# Altium schematic symbol library MySchLib.SchLib: 286 symbols (part 2 of 5)
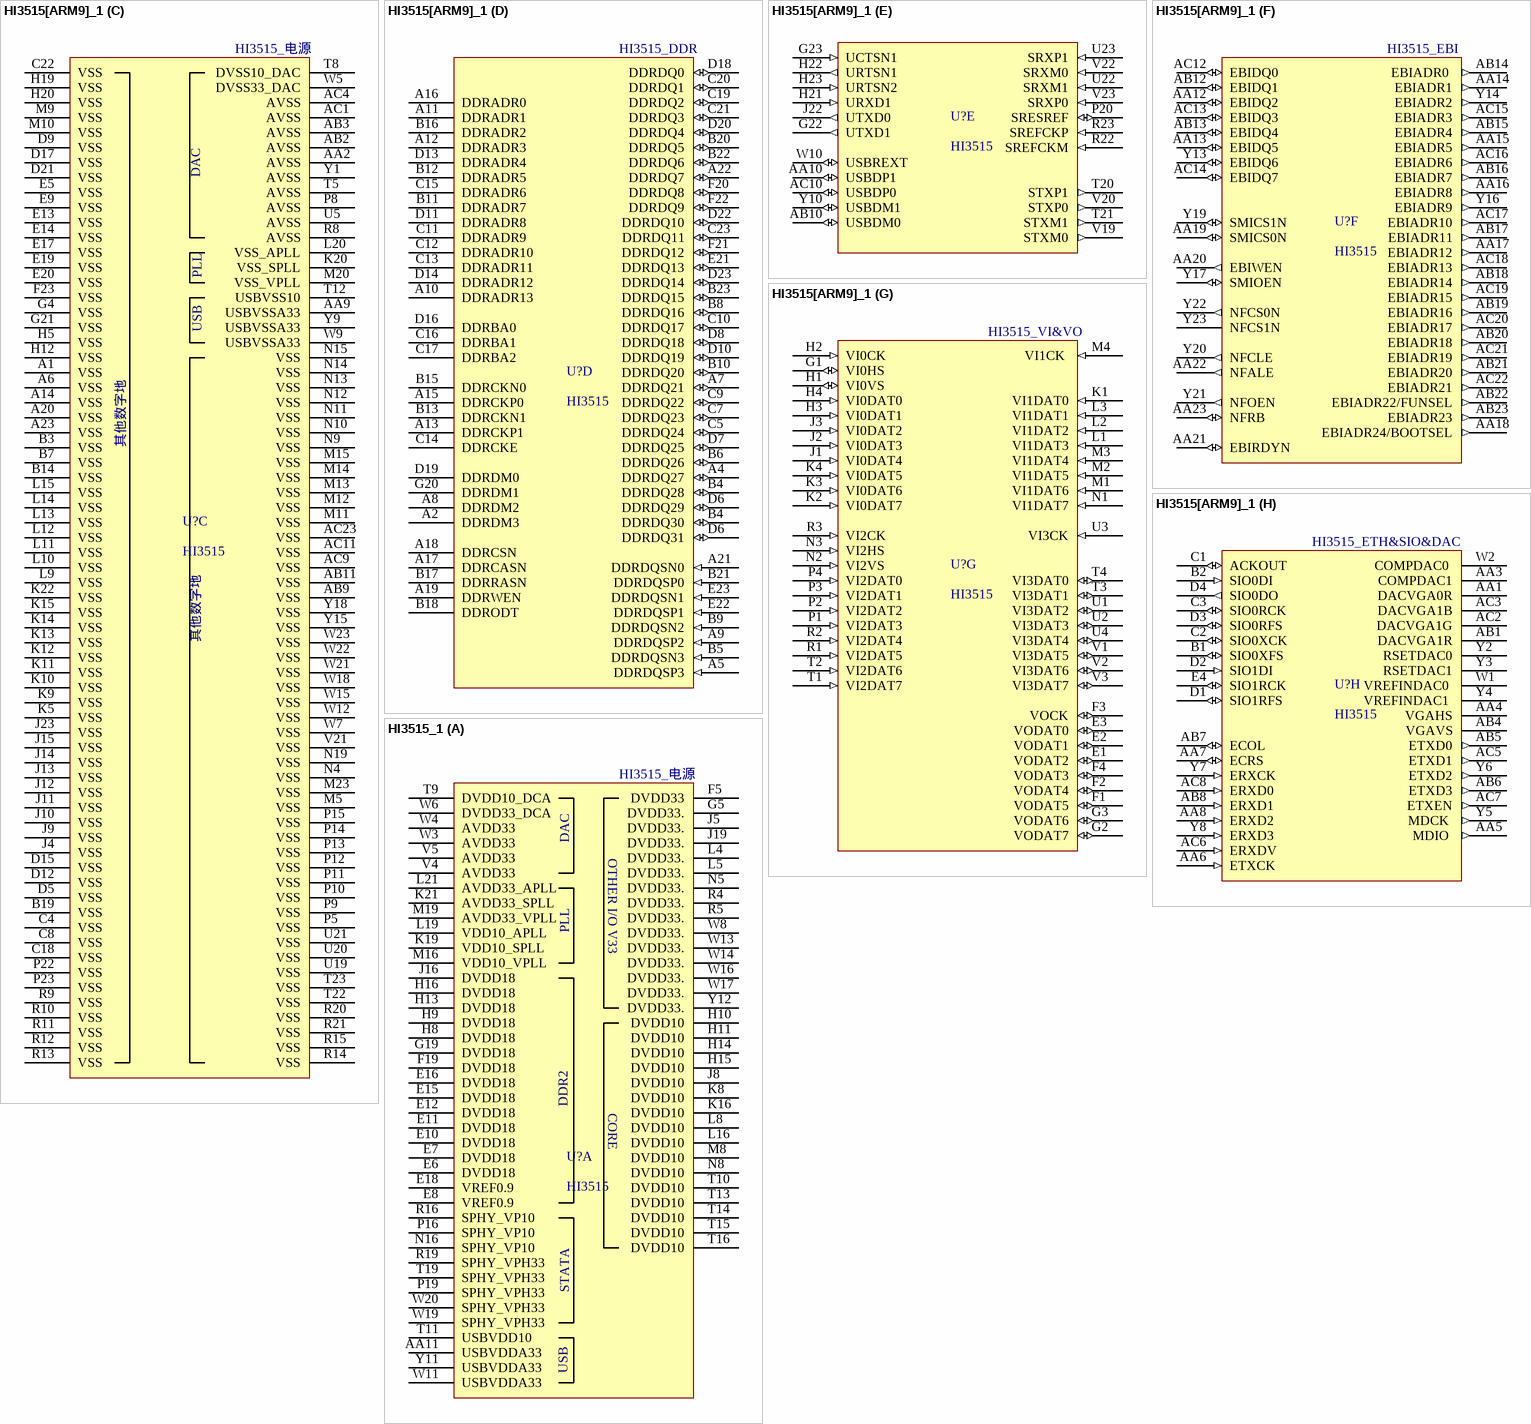
[diagram p30: symbols HI3515[ARM9]_1 to HI3515_1]

## HI3515[ARM9]_1
designator U?, comment HI3515
footprint TFBGA441
part A pins: AA18 EBIADR24/BOOTSEL (out) "EBI 地址总线", AB22 EBIADR22/FUNSEL (out) "EBI 地址总线", J20 SDA (io) "I  2  C 总线数据/ 地址，OD输出。  PCB 上需要外界上拉电阻", J21 SCL (io) "I  2  C 总线时钟，OD输出。PCB  上需要外界上拉电阻", K23 XOUT24, L22 TESTMODE (in) "功能模式和ARM debug 模式选  择。   0 ：正常工作模式，ARM可进  入debug 模式；   1 ：测试模式", L23 XIN24, M21 RSTN  (in) "系统上电复位信号输入，低电  平有效", M22 WDGRSTN (out) "看门狗复位输出，低电平有  效，OD输出", N20 TCK (in) "JTAG 时钟输入", N21 TMS (in) "JTAG 模式选择输入", N22 TDO  (out) "JTAG 数据输出", N23 TDI  (in) "JTAG 数据输入", P21 TRSTN (in) "JTAG 复位输入，低电平有效"
part B pins: AA11 USBVDDA33 (power) "USB 2.0 HOST模拟电源，外接  3.3V", E6 DVDD18 (power), E7 DVDD18 (power), E8 VREF0.9 (power), E10 DVDD18 (power), E11 DVDD18 (power), E12 DVDD18 (power), E15 DVDD18 (power), E16 DVDD18 (power), E18 VREF0.9 (power), F5 DVDD33 (power), F19 DVDD18 (power), G5 DVDD33 (power), G19 DVDD18 (power), H8 DVDD18 (power), H9 DVDD18 (power), H10 DVDD10 (power), H11 DVDD10 (power), H13 DVDD18 (power), H14 DVDD10 (power), H15 DVDD10 (power), H16 DVDD18 (power), J5 DVDD33 (power), J8 DVDD10 (power), J16 DVDD18 (power), J19 DVDD33 (power), K8 DVDD10 (power), K16 DVDD10 (power), K19 VDD10_SPLL (power), K21 AVDD33_SPLL (power), L4 DVDD33 (power), L5 DVDD33 (power), L8 DVDD10 (power), L16 DVDD10 (power), L19 VDD10_APLL (power), L21 AVDD33_APLL (power), M8 DVDD10 (power), M16 VDD10_VPLL (power), M19 AVDD33_VPLL (power), N5 DVDD33 (power), N8 DVDD10 (power), N16 SPHY_VP10 (power), P16 SPHY_VP10 (power), P19 SPHY_VPH33 (power) "3.3V", R4 DVDD33 (power), R5 DVDD33 (power), R16 SPHY_VP10 (power), R19 SPHY_VPH33 (power) "3.3V", T9 DVDD10_DCA (power), T10 DVDD10 (power), T11 USBVDD10 (power) "USB 2.0 HOST数字电源，外接  1.0V", T13 DVDD10 (power), T14 DVDD10 (power), T15 DVDD10 (power), T16 DVDD10 (power), T19 SPHY_VPH33 (power) "3.3V", V4 AVDD33 (power), V5 AVDD33 (power), W3 AVDD33 (power), W4 AVDD33 (power), W6 DVDD33_DCA (power), W8 DVDD33 (power), W11 USBVDDA33 (power) "USB 2.0 HOST模拟电源，外接  3.3V", W13 DVDD33 (power), W14 DVDD33 (power), W16 DVDD33 (power), W17 DVDD33 (power), W19 SPHY_VPH33 (power) "3.3V", W20 SPHY_VPH33 (power) "3.3V", Y11 USBVDDA33 (power) "USB 2.0 HOST模拟电源，外接  3.3V", Y12 DVDD33 (power)
part C pins: A1 VSS (power) "数字地", A6 VSS (power) "数字地", A14 VSS (power) "数字地", A20 VSS (power) "数字地", A23 VSS (power) "数字地", AA2 AVSS (power), AA9 USBVSSA33 (power), AB2 AVSS (power), AB3 AVSS (power), AB9 VSS (power) "数字地", AB11 VSS (power) "数字地", AC1 AVSS (power), AC4 AVSS (power), AC9 VSS (power) "数字地", AC11 VSS (power) "数字地", AC23 VSS (power) "数字地", B3 VSS (power) "数字地", B7 VSS (power) "数字地", B14 VSS (power) "数字地", B19 VSS (power) "数字地", C4 VSS (power) "数字地", C8 VSS (power) "数字地", C18 VSS (power) "数字地", C22 VSS (power) "数字地", D5 VSS (power) "数字地", D9 VSS (power) "数字地", D12 VSS (power) "数字地", D15 VSS (power) "数字地", D17 VSS (power) "数字地", D21 VSS (power) "数字地", E5 VSS (power) "数字地", E9 VSS (power) "数字地", E13 VSS (power) "数字地", E14 VSS (power) "数字地", E17 VSS (power) "数字地", E19 VSS (power) "数字地", E20 VSS (power) "数字地", F23 VSS (power) "数字地", G4 VSS (power) "数字地", G21 VSS (power) "数字地", H5 VSS (power) "数字地", H12 VSS (power) "数字地", H19 VSS (power) "数字地", H20 VSS (power) "数字地", J4 VSS (power) "数字地", J9 VSS (power) "数字地", J10 VSS (power) "数字地", J11 VSS (power) "数字地", J12 VSS (power) "数字地", J13 VSS (power) "数字地", J14 VSS (power) "数字地", J15 VSS (power) "数字地", J23 VSS (power) "数字地", K5 VSS (power) "数字地", K9 VSS (power) "数字地", K10 VSS (power) "数字地", K11 VSS (power) "数字地", K12 VSS (power) "数字地", K13 VSS (power) "数字地", K14 VSS (power) "数字地", K15 VSS (power) "数字地", K20 VSS_SPLL (power), K22 VSS (power) "数字地", L9 VSS (power) "数字地", L10 VSS (power) "数字地", L11 VSS (power) "数字地", L12 VSS (power) "数字地", L13 VSS (power) "数字地", L14 VSS (power) "数字地", L15 VSS (power) "数字地", L20 VSS_APLL (power), M5 VSS (power) "数字地", M9 VSS (power) "数字地", M10 VSS (power) "数字地", M11 VSS (power) "数字地", M12 VSS (power) "数字地", M13 VSS (power) "数字地", M14 VSS (power) "数字地", M15 VSS (power) "数字地", M20 VSS_VPLL (power), M23 VSS (power) "数字地", N4 VSS (power) "数字地", N9 VSS (power) "数字地", N10 VSS (power) "数字地", N11 VSS (power) "数字地", N12 VSS (power) "数字地", N13 VSS (power) "数字地", N14 VSS (power) "数字地", N15 VSS (power) "数字地", N19 VSS (power) "数字地", P5 VSS (power) "数字地", P8 AVSS (power), P9 VSS (power) "数字地", P10 VSS (power) "数字地", P11 VSS (power) "数字地", P12 VSS (power) "数字地", P13 VSS (power) "数字地", P14 VSS (power) "数字地", P15 VSS (power) "数字地", P22 VSS (power) "数字地", P23 VSS (power) "数字地", R8 AVSS (power), R9 VSS (power) "数字地", R10 VSS (power) "数字地", R11 VSS (power) "数字地", R12 VSS (power) "数字地", R13 VSS (power) "数字地", R14 VSS (power) "数字地", R15 VSS (power) "数字地", R20 VSS (power) "数字地", R21 VSS (power) "数字地", T5 AVSS (power), T8 DVSS10_DAC (power), T12 USBVSS10 (power), T22 VSS (power) "数字地", T23 VSS (power) "数字地", U5 AVSS (power), U19 VSS (power) "数字地", U20 VSS (power) "数字地", U21 VSS (power) "数字地", V21 VSS (power) "数字地", W5 DVSS33_DAC (power), W7 VSS (power) "数字地", W9 USBVSSA33 (power), W12 VSS (power) "数字地", W15 VSS (power) "数字地", W18 VSS (power) "数字地", W21 VSS (power) "数字地", W22 VSS (power) "数字地", W23 VSS (power) "数字地", Y1 AVSS (power), Y9 USBVSSA33 (power), Y15 VSS (power) "数字地", Y18 VSS (power) "数字地"
part D pins: A2 DDRDM3 "DDR端口的字节屏蔽信号，对  应数据总线DDRDQ[31:24]", A4 DDRDQ27 (io) "DDR端口的数据信号", A5 DDRDQSP3 (in) "DDR端口的数据选通正向差分  信号，对应数据总线  DDRDQ[31:24]", A7 DDRDQ21 (io) "DDR端口的数据信号", A8 DDRDM2 "DDR端口的字节屏蔽信号，对  应数据总线DDRDQ[23:16]", A9 DDRDQSP2 (in) "DDR端口的数据选通正向差分  信号，对应数据总线  DDRDQ[23:16]", A10 DDRADR13 "DDR端口的地址信号", A11 DDRADR1 "DDR端口的地址信号", A12 DDRADR3 "DDR端口的地址信号", A13 DDRCKP1 "DDR端口的01 组正向差分时  钟", A15 DDRCKP0 "DDR端口的0 组正向差分时  钟", A16 DDRADR0 "DDR端口的地址信号", A17 DDRCASN "DDR端口的列地址选通信号，  低电平有效", A18 DDRCSN "DDR端口输出到DDR2   SDRAM 的片选信号，低电平有  效。", A19 DDRWEN "DDR端口的写使能信号，低电  平有效", A21 DDRDQSN0 (in) "DDR端口的数据选通负向差分  信号，对应数据总线  DDRDQ[7:0]", A22 DDRDQ7 (io) "DDR端口的数据信号", B4 DDRDQ28 (io) "DDR端口的数据信号", B4 DDRDQ30 (io), B5 DDRDQSN3 (in) "DDR端口的数据选通负向差分  信号，对应数据总线  DDRDQ[31:24]。", B6 DDRDQ26 (io) "DDR端口的数据信号", B8 DDRDQ16 (io) "DDR端口的数据信号", B9 DDRDQSN2 (in) "DDR端口的数据选通负向差分  信号，对应数据总线  DDRDQ[23:16]", B10 DDRDQ20 (io) "DDR端口的数据信号", B11 DDRADR7 "DDR端口的地址信号", B12 DDRADR5 "DDR端口的地址信号", B13 DDRCKN1 "DDR端口的1 组负向差分时  钟", B15 DDRCKN0 "DDR端口的0 组负向差分时  钟", B16 DDRADR2 "DDR端口的地址信号", B17 DDRRASN "DDR端口的数据选DDR端口的行地址选通信号，  低电平有效", B18 DDRODT "DDR端口的数据选通正向差分  信号，对应数据总线  DDRDQ[31:24]", B20 DDRDQ5 (io) "DDR端口的数据信号", B21 DDRDQSP0 (in) "DDR端口的数据选通正向差分  信号，对应数据总线  DDRDQ[7:0]", B22 DDRDQ6 (io) "DDR端口的数据信号", B23 DDRDQ15 (io) "DDR端口的数据信号", C5 DDRDQ24 (io) "DDR端口的数据信号", C7 DDRDQ23 (io) "DDR端口的数据信号", C9 DDRDQ22 (io) "DDR端口的数据信号", C10 DDRDQ17 (io) "DDR端口的数据信号", C11 DDRADR9 "DDR端口的地址信号", C12 DDRADR10 "DDR端口的地址信号", C13 DDRADR11 "DDR端口的地址信号", C14 DDRCKE "DDR端口的时钟使能信号，高  电平有效", C15 DDRADR6 "DDR端口的地址信号", C16 DDRBA1 "DDR端口的bank 1 选择信号", C17 DDRBA2 "DDR端口的bank 2 选择信号", C19 DDRDQ2 (io) "DDR端口的数据信号", C20 DDRDQ1 (io) "DDR端口的数据信号", C21 DDRDQ3 (io) "DDR端口的数据信号", C23 DDRDQ11 (io) "DDR端口的数据信号", D6 DDRDQ29 (io) "DDR端口的数据信号", D6 DDRDQ31 (io), D7 DDRDQ25 (io) "DDR端口的数据信号", D8 DDRDQ18 (io) "DDR端口的数据信号", D10 DDRDQ19 (io) "DDR端口的数据信号", D11 DDRADR8 "DDR端口的地址信号", D13 DDRADR4 "DDR端口的地址信号", D14 DDRADR12 "DDR端口的地址信号", D16 DDRBA0 "DDR端口的bank 0 选择信号", D18 DDRDQ0 (io) "DDR端口的数据信号", D19 DDRDM0 "DDR端口输出到DDR2DDR端口的字节屏蔽信号，对  应数据总线DDRDQ[7:0]", D20 DDRDQ4 (io) "DDR端口的数据信号", D22 DDRDQ10 (io) "DDR端口的数据信号", D23 DDRDQ14 (io) "DDR端口的数据信号", E21 DDRDQ13 (io) "DDR端口的数据信号", E22 DDRDQSP1 (in) "DDR端口的数据选通正向差分  信号，对应数据总线  DDRDQ[15:8]", E23 DDRDQSN1 (in) "DDR端口的数据选通负向差分  信号，对应数据总线  DDRDQ[15:8] 。", F20 DDRDQ8 (io) "DDR端口的数据信号", F21 DDRDQ12 (io) "DDR端口的数据信号", F22 DDRDQ9 (io) "DDR端口的数据信号", G20 DDRDM1 "DDR端口的字节屏蔽信号，对  应数据总线DDRDQ[15:8]"
part E pins: AA10 USBDP1 (io) "USB 2.0 HOST端口1 D+差分数  据总线，为模拟信号", AB10 USBDM0 (io) "USB 2.0 HOST端口0 D- 差分数  据总线，为模拟信号", AC10 USBDP0 (io) "USB 2.0 HOST端口0 D+差分数  据总线，为模拟信号", G22 UTXD1 (out) "UART1数据发送", G23 UCTSN1 (in) "SATA 端口1 的正相差分数据输出", H21 URXD1 (in) "UART1数据接收", H22 URTSN1 (out) "UART1的RTSN 信号", H23 URTSN2 (in) "UART0数据接收", J22 UTXD0 (out) "UART1数据接收", P20 SRESREF (io) "SATA 的扩展电阻管脚，外接  190? 扩展电阻", R22 SREFCKM (in) "SATA 的负相差分时钟输入", R23 SREFCKP (in) "SATA 的正相差分时钟输入", T20 STXP1 (out) "SATA 端口1 的正相差分数据输出", T21 STXM1 (out) "SATA 端口1 的负相差分数据输  出", U22 SRXM1 (in) "SATA 端口1 的负相差分数据输  入", U23 SRXP1 (in) "SATA 端口1 的正相差分数据输  入", V19 STXM0 (out) "SATA 端口0 的负相差分数据输  出", V20 STXP0 (out) "SATA 端口0 的正相差分数据输  出", V22 SRXM0 (in) "SATA 端口0 的负相差分数据输  入", V23 SRXP0 (in) "SATA 端口0 的正相差分数据输  入", W10 USBREXT (io) "USB 2.0 HOST外置电阻连接  端", Y10 USBDM1 (io) "USB 2.0 HOUSB 2.0 HOST端口1 D- 差分数  据总线，为模拟信号"
part F pins: AA12 EBIDQ2 (io) "EBI 数据总线", AA13 EBIDQ5 (io) "EBI 数据总线", AA14 EBIADR1 (out) "EBI 地址总线", AA15 EBIADR5 (out) "EBI 地址总线", AA16 EBIADR8 (out) "EBI 地址总线", AA17 EBIADR12 (out) "EBI 地址总线", AA18 EBIADR24/BOOTSEL (out) "EBI 地址总线", AA19 SMICS0N (io) "NAND Flash的空闲指示信号。  0 ：忙；   1 ：空闲。   外接两片NAND Flash时，需要  将两片Flash器件的输出经过线  与后连接到本管脚", AA20 EBIWEN  (out) "SMI 接口的输入Ready 指EBI 写信号，低电平有效", AA21 EBIRDYN (io) "SMI 接口的输入Ready 指示信  号，低电平有效。如不使用，  该管脚可悬空", AA22 NFALE (out) "NAND Flash地址锁存信号", AA23 NFRB (io) "NAND Flash的空闲指示信号。  0 ：忙；   1 ：空闲。   外接两片NAND Flash时，需要  将两片Flash器件的输出经过线  与后连接到本管脚", AB12 EBIDQ1 (io) "EBI 数据总线", AB13 EBIDQ4 (io) "EBI 数据总线", AB14 EBIADR0  (out) "EBI 地址总线", AB15 EBIADR4 (out) "EBI 地址总线", AB16 EBIADR7 (out) "EBI 地址总线", AB17 EBIADR11 (out) "EBI 地址总线", AB18 EBIADR14 (out) "EBI 地址总线", AB19 EBIADR16 (out) "EBI 地址总线", AB20 EBIADR18 (out) "EBI 地址总线", AB21 EBIADR20 (out) "EBI 地址总线", AB22 EBIADR22/FUNSEL (out) "EBI 地址总线", AB23 EBIADR23 (out) "EBI 地址总线", AC12 EBIDQ0 (io) "EBI 数据总线", AC13 EBIDQ3 (io) "EBI 数据总线", AC14 EBIDQ7 (io) "EBI 数据总线", AC15 EBIADR3 (out) "EBI 地址总线", AC16 EBIADR6 (out) "EBI 地址总线", AC17 EBIADR10 (out) "EBI 地址总线", AC18 EBIADR13 (out) "EBI 地址总线", AC19 EBIADR15 (out) "EBI 地址总线", AC20 EBIADR17 (out) "EBI 地址总线", AC21 EBIADR19 (out) "EBI 地址总线", AC22 EBIADR21 (out) "EBI 地址总线", Y13 EBIDQ6 (io) "EBI 数据总线", Y14 EBIADR2 (out) "EBI 地址总线", Y16 EBIADR9 (out) "EBI 地址总线", Y17 SMIOEN (io) "SMI 接口的读使能信号，低电  平有效", Y19 SMICS1N (io) "SMI 片选信号1 ，可配置成低电  平有效或高电平有效，默认为  低电平有效", Y20 NFCLE (out) "NAND Flash命令锁存信号", Y21 NFOEN (out) "NAND Flash的读使能信号，低  电平有效", Y22 NFCS0N (out) "NAND Flash片选信号0 ，低电  平有效。系统支持从该片选启  动", Y23 NFCS1N "NAND Flash片选信号1 ，低电  平有效"
part G pins: E1 VODAT2 (io) "标清图像输出数据DAT", E2 VODAT1 (io) "标清图像输出数据DAT", E3 VODAT0 (io) "标清图像输出数据DAT", F1 VODAT5 (io) "标清图像输出数据DAT", F2 VODAT4 (io) "标清图像输出数据DAT", F3 VOCK (io) "标清图像输出时钟", F4 VODAT3 (io) "标清图像输出数据DAT", G1 VI0HS (io) "VI0 接口的水平同步信号。如不  使用，该管脚可悬空", G2 VODAT7 (io) "标清图像输出数据DAT", G3 VODAT6 (io) "标清图像输出数据DAT", H1 VI0VS (io) "VI0 接口的垂直同步信号。如不  使用，该管脚可悬空", H2 VI0CK (in) "VI0 接口的时钟", H3 VI0DAT1 (in) "VI0 接口的数据DAT", H4 VI0DAT0 (in) "VI0 接口的时钟", J1 VI0DAT4 (in) "VI0 接口的数据DAT", J2 VI0DAT3 (in) "VI0 接口的数据DAT", J3 VI0DAT2 (in) "VI0 接口的数据DAT", K1 VI1DAT0 (in) "VI1 接口的数据DAT", K2 VI0DAT7 (in) "VI0 接口的数据DAT", K3 VI0DAT6 (in) "VI0 接口的数据DAT", K4 VI0DAT5 (in) "VI0 接口的数据DAT", L1 VI1DAT3 (in) "VI1 接口的数据DAT", L2 VI1DAT2 (in) "VI1 接口的数据DAT", L3 VI1DAT1 (in) "VI1 接口的数据DAT", M1 VI1DAT6 (in) "VI1 接口的数据DAT", M2 VI1DAT5 (in) "VI1 接口的数据DAT", M3 VI1DAT4 (in) "VI1 接口的数据DAT", M4 VI1CK  (in) "VI1 接口的时钟", N1 VI1DAT7 (in) "VI1 接口的数据DAT", N2 VI2VS (in) "VI2 接口的垂直同步信号。如不  使用，该管脚可悬空", N3 VI2HS  (in) "VI2 接口的水平同步信号。如不  使用，该管脚可悬空", P1 VI2DAT3 (in) "VI2 接口的时钟", P2 VI2DAT2 (in) "VI2 接口的时钟", P3 VI2DAT1 (in) "VI2 接口的时钟", P4 VI2DAT0 (in) "VI2 接口的时钟", R1 VI2DAT5 (in) "VI2 接口的时钟", R2 VI2DAT4 (in) "VI2 接口的时钟", R3 VI2CK  (in) "VI2 接口的时钟", T1 VI2DAT7 (in) "VI2 接口的时钟", T2 VI2DAT6 (in) "VI2 接口的时钟", T3 VI3DAT1 (io) "VI3 接口的数据DAT0", T4 VI3DAT0 (io) "VI3 接口的数据DAT0", U1 VI3DAT2 (io) "VI3 接口的数据DAT0", U2 VI3DAT3 (io) "VI3 接口的数据DAT0", U3 VI3CK (in) "VI3 接口的时钟", U4 VI3DAT4 (io) "VI3 接口的数据DAT0", V1 VI3DAT5 (io) "VI3 接口的数据DAT0", V2 VI3DAT6 (io) "VI3 接口的数据DAT0", V3 VI3DAT7 (io) "VI3 接口的数据DAT0"
part H pins: AA1 DACVGA0R "DAC0 的Red 信号或者一路标  清的CVBS 输出，为模拟信  号", AA3 COMPDAC1 "DAC1 的补偿管脚，外接补偿电  容", AA4 VGAHS, AA5 MDIO  (out) "MDIO 接口的输入/ 输出信号", AA6 ETXCK (in) "ETH 发送侧时钟输入", AA7 ECRS  (io) "ETH 载波侦听信号", AA8 ERXD2 (in) "ETH 接收数据DAT", AB1 DACVGA1R "DAC1 的Red 信号，为模拟信  号", AB4 VGAVS, AB5 ETXD0 (out) "ETH 发送数据DAT", AB6 ETXD3 (out) "ETH 发送数据DAT", AB7 ECOL (io) "ETH 碰撞指示信号", AB8 ERXD1 (in) "ETH 接收数据DAT", AC2 DACVGA1G "DAC1 的Green信号，为模拟信  号", AC3 DACVGA1B "DAC1 的Blue 信号输出，为模  拟信号", AC5 ETXD1 (out) "ETH 发送数据DAT", AC6 ERXDV (in) "ETH 接收数据有效", AC7 ETXEN (out) "ETH 发送使能信号", AC8 ERXD0 (in) "ETH 接收数据DAT", B1 SIO0XFS (io) "SIO 接口0 发送侧帧同步信号", B2 SIO0DI (in) "SIO 接口0 数据输入。如不使  用，该管脚可悬空", C1 ACKOUT (io) "SIO 接口的可编程输出时钟，用  于支持低端DAC器件", C2 SIO0XCK (io) "SIO 接口0 发送侧位流时钟", C3 SIO0RCK (io) "SIO 接口0 接收侧位流时钟", D1 SIO1RFS (io) "SIO 接口1 接收侧帧同步信号", D2 SIO1DI (in) "SIO 接口1 数据输入。如不使  用，该管脚可悬空", D3 SIO0RFS (io) "SIO 接口0 接收侧帧同步信号", D4 SIO0DO (out) "SIO 接口0 数据输出", E4 SIO1RCK (io) "SIO 接口1 数SIO 接口1 接收侧位流时钟", W1 VREFINDAC0  "DAC0 的参考电压输入", W2 COMPDAC0  "DAC0 的补偿管脚，外接补偿电  容", Y2 RSETDAC0 "DAC0 的扩展电阻管脚，外接扩  展电阻", Y3 RSETDAC1 "DAC1 的扩展电阻管脚，外接扩  展电阻", Y4 VREFINDAC1  "DAC1 的参考电压输入", Y5 MDCK  (out) "MDIO 接口时钟输出", Y6 ETXD2 (out) "ETH 发送数据DAT", Y7 ERXCK (in) "ETH 接收侧时钟输入", Y8 ERXD3 (in) "ETH 接收数据DAT"
part B text: HI3515_电源; DAC; OTHER I/O V33; PLL; DDR2; CORE; STATA; USB
part C text: HI3515_电源; DAC; PLL; USB; 其他数字地
part D text: HI3515_DDR
part F text: HI3515_EBI
part G text: HI3515_VI&VO
part H text: HI3515_ETH&SIO&DAC

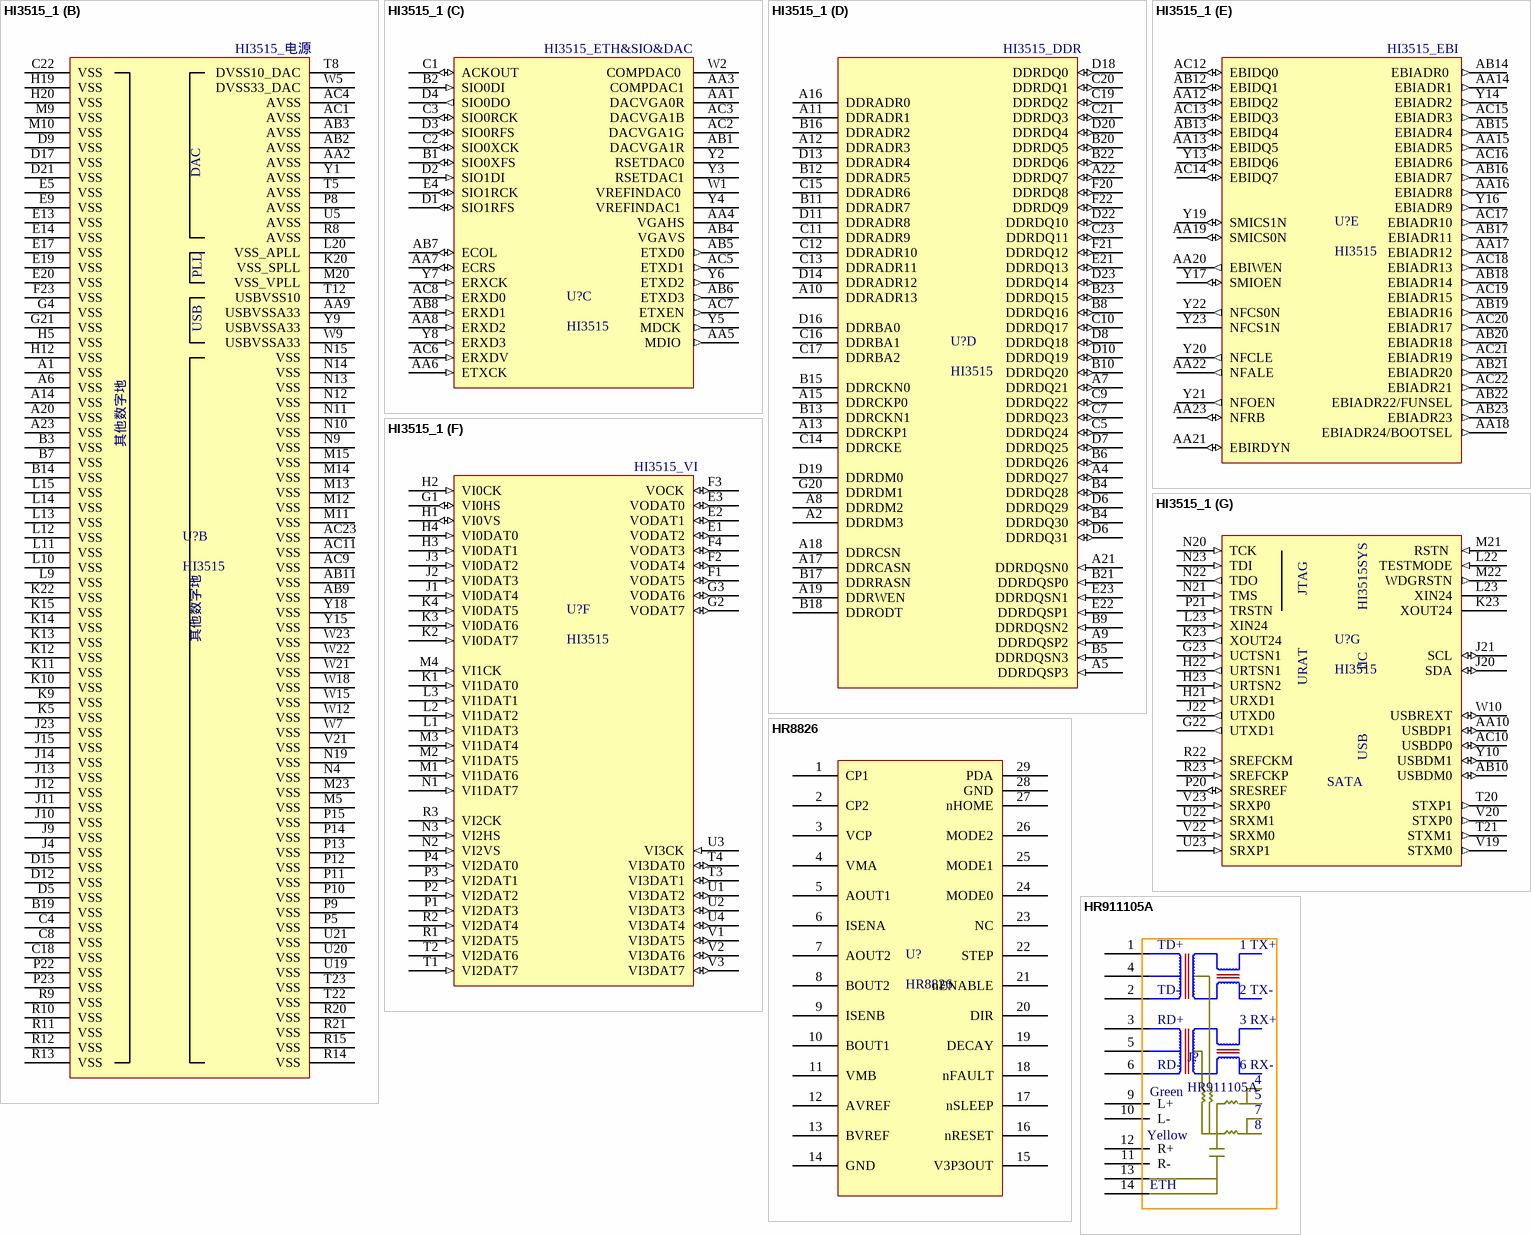
[diagram p7: symbols HI3515_1 to HR911105A]

## HI3515_1
designator U?, comment HI3515
footprint TFBGA441 (Footprint not found)
part A pins: AA11 USBVDDA33 (power) "USB 2.0 HOST模拟电源，外接  3.3V", E6 DVDD18 (power), E7 DVDD18 (power), E8 VREF0.9 (power), E10 DVDD18 (power), E11 DVDD18 (power), E12 DVDD18 (power), E15 DVDD18 (power), E16 DVDD18 (power), E18 VREF0.9 (power), F5 DVDD33 (power), F19 DVDD18 (power), G5 DVDD33. (power), G19 DVDD18 (power), H8 DVDD18 (power), H9 DVDD18 (power), H10 DVDD10 (power), H11 DVDD10 (power), H13 DVDD18 (power), H14 DVDD10 (power), H15 DVDD10 (power), H16 DVDD18 (power), J5 DVDD33. (power), J8 DVDD10 (power), J16 DVDD18 (power), J19 DVDD33. (power), K8 DVDD10 (power), K16 DVDD10 (power), K19 VDD10_SPLL (power), K21 AVDD33_SPLL (power), L4 DVDD33. (power), L5 DVDD33. (power), L8 DVDD10 (power), L16 DVDD10 (power), L19 VDD10_APLL (power), L21 AVDD33_APLL (power), M8 DVDD10 (power), M16 VDD10_VPLL (power), M19 AVDD33_VPLL (power), N5 DVDD33. (power), N8 DVDD10 (power), N16 SPHY_VP10 (power), P16 SPHY_VP10 (power), P19 SPHY_VPH33 (power) "3.3V", R4 DVDD33. (power), R5 DVDD33. (power), R16 SPHY_VP10 (power), R19 SPHY_VPH33 (power) "3.3V", T9 DVDD10_DCA (power), T10 DVDD10 (power), T11 USBVDD10 (power) "USB 2.0 HOST数字电源，外接  1.0V", T13 DVDD10 (power), T14 DVDD10 (power), T15 DVDD10 (power), T16 DVDD10 (power), T19 SPHY_VPH33 (power) "3.3V", V4 AVDD33 (power), V5 AVDD33 (power), W3 AVDD33 (power), W4 AVDD33 (power), W6 DVDD33_DCA (power), W8 DVDD33. (power), W11 USBVDDA33 (power) "USB 2.0 HOST模拟电源，外接  3.3V", W13 DVDD33. (power), W14 DVDD33. (power), W16 DVDD33. (power), W17 DVDD33. (power), W19 SPHY_VPH33 (power) "3.3V", W20 SPHY_VPH33 (power) "3.3V", Y11 USBVDDA33 (power) "USB 2.0 HOST模拟电源，外接  3.3V", Y12 DVDD33. (power)
part B pins: A1 VSS (power) "数字地", A6 VSS (power) "数字地", A14 VSS (power) "数字地", A20 VSS (power) "数字地", A23 VSS (power) "数字地", AA2 AVSS (power), AA9 USBVSSA33 (power), AB2 AVSS (power), AB3 AVSS (power), AB9 VSS (power) "数字地", AB11 VSS (power) "数字地", AC1 AVSS (power), AC4 AVSS (power), AC9 VSS (power) "数字地", AC11 VSS (power) "数字地", AC23 VSS (power) "数字地", B3 VSS (power) "数字地", B7 VSS (power) "数字地", B14 VSS (power) "数字地", B19 VSS (power) "数字地", C4 VSS (power) "数字地", C8 VSS (power) "数字地", C18 VSS (power) "数字地", C22 VSS (power) "数字地", D5 VSS (power) "数字地", D9 VSS (power) "数字地", D12 VSS (power) "数字地", D15 VSS (power) "数字地", D17 VSS (power) "数字地", D21 VSS (power) "数字地", E5 VSS (power) "数字地", E9 VSS (power) "数字地", E13 VSS (power) "数字地", E14 VSS (power) "数字地", E17 VSS (power) "数字地", E19 VSS (power) "数字地", E20 VSS (power) "数字地", F23 VSS (power) "数字地", G4 VSS (power) "数字地", G21 VSS (power) "数字地", H5 VSS (power) "数字地", H12 VSS (power) "数字地", H19 VSS (power) "数字地", H20 VSS (power) "数字地", J4 VSS (power) "数字地", J9 VSS (power) "数字地", J10 VSS (power) "数字地", J11 VSS (power) "数字地", J12 VSS (power) "数字地", J13 VSS (power) "数字地", J14 VSS (power) "数字地", J15 VSS (power) "数字地", J23 VSS (power) "数字地", K5 VSS (power) "数字地", K9 VSS (power) "数字地", K10 VSS (power) "数字地", K11 VSS (power) "数字地", K12 VSS (power) "数字地", K13 VSS (power) "数字地", K14 VSS (power) "数字地", K15 VSS (power) "数字地", K20 VSS_SPLL (power), K22 VSS (power) "数字地", L9 VSS (power) "数字地", L10 VSS (power) "数字地", L11 VSS (power) "数字地", L12 VSS (power) "数字地", L13 VSS (power) "数字地", L14 VSS (power) "数字地", L15 VSS (power) "数字地", L20 VSS_APLL (power), M5 VSS (power) "数字地", M9 VSS (power) "数字地", M10 VSS (power) "数字地", M11 VSS (power) "数字地", M12 VSS (power) "数字地", M13 VSS (power) "数字地", M14 VSS (power) "数字地", M15 VSS (power) "数字地", M20 VSS_VPLL (power), M23 VSS (power) "数字地", N4 VSS (power) "数字地", N9 VSS (power) "数字地", N10 VSS (power) "数字地", N11 VSS (power) "数字地", N12 VSS (power) "数字地", N13 VSS (power) "数字地", N14 VSS (power) "数字地", N15 VSS (power) "数字地", N19 VSS (power) "数字地", P5 VSS (power) "数字地", P8 AVSS (power), P9 VSS (power) "数字地", P10 VSS (power) "数字地", P11 VSS (power) "数字地", P12 VSS (power) "数字地", P13 VSS (power) "数字地", P14 VSS (power) "数字地", P15 VSS (power) "数字地", P22 VSS (power) "数字地", P23 VSS (power) "数字地", R8 AVSS (power), R9 VSS (power) "数字地", R10 VSS (power) "数字地", R11 VSS (power) "数字地", R12 VSS (power) "数字地", R13 VSS (power) "数字地", R14 VSS (power) "数字地", R15 VSS (power) "数字地", R20 VSS (power) "数字地", R21 VSS (power) "数字地", T5 AVSS (power), T8 DVSS10_DAC (power), T12 USBVSS10 (power), T22 VSS (power) "数字地", T23 VSS (power) "数字地", U5 AVSS (power), U19 VSS (power) "数字地", U20 VSS (power) "数字地", U21 VSS (power) "数字地", V21 VSS (power) "数字地", W5 DVSS33_DAC (power), W7 VSS (power) "数字地", W9 USBVSSA33 (power), W12 VSS (power) "数字地", W15 VSS (power) "数字地", W18 VSS (power) "数字地", W21 VSS (power) "数字地", W22 VSS (power) "数字地", W23 VSS (power) "数字地", Y1 AVSS (power), Y9 USBVSSA33 (power), Y15 VSS (power) "数字地", Y18 VSS (power) "数字地"
part C pins: AA1 DACVGA0R "DAC0 的Red 信号或者一路标  清的CVBS 输出，为模拟信  号", AA3 COMPDAC1 "DAC1 的补偿管脚，外接补偿电  容", AA4 VGAHS, AA5 MDIO  (out) "MDIO 接口的输入/ 输出信号", AA6 ETXCK (in) "ETH 发送侧时钟输入", AA7 ECRS  (io) "ETH 载波侦听信号", AA8 ERXD2 (in) "ETH 接收数据DAT", AB1 DACVGA1R "DAC1 的Red 信号，为模拟信  号", AB4 VGAVS, AB5 ETXD0 (out) "ETH 发送数据DAT", AB6 ETXD3 (out) "ETH 发送数据DAT", AB7 ECOL (io) "ETH 碰撞指示信号", AB8 ERXD1 (in) "ETH 接收数据DAT", AC2 DACVGA1G "DAC1 的Green信号，为模拟信  号", AC3 DACVGA1B "DAC1 的Blue 信号输出，为模  拟信号", AC5 ETXD1 (out) "ETH 发送数据DAT", AC6 ERXDV (in) "ETH 接收数据有效", AC7 ETXEN (out) "ETH 发送使能信号", AC8 ERXD0 (in) "ETH 接收数据DAT", B1 SIO0XFS (io) "SIO 接口0 发送侧帧同步信号", B2 SIO0DI (in) "SIO 接口0 数据输入。如不使  用，该管脚可悬空", C1 ACKOUT (io) "SIO 接口的可编程输出时钟，用  于支持低端DAC器件", C2 SIO0XCK (io) "SIO 接口0 发送侧位流时钟", C3 SIO0RCK (io) "SIO 接口0 接收侧位流时钟", D1 SIO1RFS (io) "SIO 接口1 接收侧帧同步信号", D2 SIO1DI (in) "SIO 接口1 数据输入。如不使  用，该管脚可悬空", D3 SIO0RFS (io) "SIO 接口0 接收侧帧同步信号", D4 SIO0DO (out) "SIO 接口0 数据输出", E4 SIO1RCK (io) "SIO 接口1 数SIO 接口1 接收侧位流时钟", W1 VREFINDAC0  "DAC0 的参考电压输入", W2 COMPDAC0  "DAC0 的补偿管脚，外接补偿电  容", Y2 RSETDAC0 "DAC0 的扩展电阻管脚，外接扩  展电阻", Y3 RSETDAC1 "DAC1 的扩展电阻管脚，外接扩  展电阻", Y4 VREFINDAC1  "DAC1 的参考电压输入", Y5 MDCK  (out) "MDIO 接口时钟输出", Y6 ETXD2 (out) "ETH 发送数据DAT", Y7 ERXCK (in) "ETH 接收侧时钟输入", Y8 ERXD3 (in) "ETH 接收数据DAT"
part D pins: A2 DDRDM3 "DDR端口的字节屏蔽信号，对  应数据总线DDRDQ[31:24]", A4 DDRDQ27 (io) "DDR端口的数据信号", A5 DDRDQSP3 (in) "DDR端口的数据选通正向差分  信号，对应数据总线  DDRDQ[31:24]", A7 DDRDQ21 (io) "DDR端口的数据信号", A8 DDRDM2 "DDR端口的字节屏蔽信号，对  应数据总线DDRDQ[23:16]", A9 DDRDQSP2 (in) "DDR端口的数据选通正向差分  信号，对应数据总线  DDRDQ[23:16]", A10 DDRADR13 "DDR端口的地址信号", A11 DDRADR1 "DDR端口的地址信号", A12 DDRADR3 "DDR端口的地址信号", A13 DDRCKP1 "DDR端口的01 组正向差分时  钟", A15 DDRCKP0 "DDR端口的0 组正向差分时  钟", A16 DDRADR0 "DDR端口的地址信号", A17 DDRCASN "DDR端口的列地址选通信号，  低电平有效", A18 DDRCSN "DDR端口输出到DDR2   SDRAM 的片选信号，低电平有  效。", A19 DDRWEN "DDR端口的写使能信号，低电  平有效", A21 DDRDQSN0 (in) "DDR端口的数据选通负向差分  信号，对应数据总线  DDRDQ[7:0]", A22 DDRDQ7 (io) "DDR端口的数据信号", B4 DDRDQ28 (io) "DDR端口的数据信号", B4 DDRDQ30 (io), B5 DDRDQSN3 (in) "DDR端口的数据选通负向差分  信号，对应数据总线  DDRDQ[31:24]。", B6 DDRDQ26 (io) "DDR端口的数据信号", B8 DDRDQ16 (io) "DDR端口的数据信号", B9 DDRDQSN2 (in) "DDR端口的数据选通负向差分  信号，对应数据总线  DDRDQ[23:16]", B10 DDRDQ20 (io) "DDR端口的数据信号", B11 DDRADR7 "DDR端口的地址信号", B12 DDRADR5 "DDR端口的地址信号", B13 DDRCKN1 "DDR端口的1 组负向差分时  钟", B15 DDRCKN0 "DDR端口的0 组负向差分时  钟", B16 DDRADR2 "DDR端口的地址信号", B17 DDRRASN "DDR端口的数据选DDR端口的行地址选通信号，  低电平有效", B18 DDRODT "DDR端口的数据选通正向差分  信号，对应数据总线  DDRDQ[31:24]", B20 DDRDQ5 (io) "DDR端口的数据信号", B21 DDRDQSP0 (in) "DDR端口的数据选通正向差分  信号，对应数据总线  DDRDQ[7:0]", B22 DDRDQ6 (io) "DDR端口的数据信号", B23 DDRDQ15 (io) "DDR端口的数据信号", C5 DDRDQ24 (io) "DDR端口的数据信号", C7 DDRDQ23 (io) "DDR端口的数据信号", C9 DDRDQ22 (io) "DDR端口的数据信号", C10 DDRDQ17 (io) "DDR端口的数据信号", C11 DDRADR9 "DDR端口的地址信号", C12 DDRADR10 "DDR端口的地址信号", C13 DDRADR11 "DDR端口的地址信号", C14 DDRCKE "DDR端口的时钟使能信号，高  电平有效", C15 DDRADR6 "DDR端口的地址信号", C16 DDRBA1 "DDR端口的bank 1 选择信号", C17 DDRBA2 "DDR端口的bank 2 选择信号", C19 DDRDQ2 (io) "DDR端口的数据信号", C20 DDRDQ1 (io) "DDR端口的数据信号", C21 DDRDQ3 (io) "DDR端口的数据信号", C23 DDRDQ11 (io) "DDR端口的数据信号", D6 DDRDQ29 (io) "DDR端口的数据信号", D6 DDRDQ31 (io), D7 DDRDQ25 (io) "DDR端口的数据信号", D8 DDRDQ18 (io) "DDR端口的数据信号", D10 DDRDQ19 (io) "DDR端口的数据信号", D11 DDRADR8 "DDR端口的地址信号", D13 DDRADR4 "DDR端口的地址信号", D14 DDRADR12 "DDR端口的地址信号", D16 DDRBA0 "DDR端口的bank 0 选择信号", D18 DDRDQ0 (io) "DDR端口的数据信号", D19 DDRDM0 "DDR端口输出到DDR2DDR端口的字节屏蔽信号，对  应数据总线DDRDQ[7:0]", D20 DDRDQ4 (io) "DDR端口的数据信号", D22 DDRDQ10 (io) "DDR端口的数据信号", D23 DDRDQ14 (io) "DDR端口的数据信号", E21 DDRDQ13 (io) "DDR端口的数据信号", E22 DDRDQSP1 (in) "DDR端口的数据选通正向差分  信号，对应数据总线  DDRDQ[15:8]", E23 DDRDQSN1 (in) "DDR端口的数据选通负向差分  信号，对应数据总线  DDRDQ[15:8] 。", F20 DDRDQ8 (io) "DDR端口的数据信号", F21 DDRDQ12 (io) "DDR端口的数据信号", F22 DDRDQ9 (io) "DDR端口的数据信号", G20 DDRDM1 "DDR端口的字节屏蔽信号，对  应数据总线DDRDQ[15:8]"
part E pins: AA12 EBIDQ2 (io) "EBI 数据总线", AA13 EBIDQ5 (io) "EBI 数据总线", AA14 EBIADR1 (out) "EBI 地址总线", AA15 EBIADR5 (out) "EBI 地址总线", AA16 EBIADR8 (out) "EBI 地址总线", AA17 EBIADR12 (out) "EBI 地址总线", AA18 EBIADR24/BOOTSEL (out) "EBI 地址总线", AA19 SMICS0N (io) "NAND Flash的空闲指示信号。  0 ：忙；   1 ：空闲。   外接两片NAND Flash时，需要  将两片Flash器件的输出经过线  与后连接到本管脚", AA20 EBIWEN  (out) "SMI 接口的输入Ready 指EBI 写信号，低电平有效", AA21 EBIRDYN (io) "SMI 接口的输入Ready 指示信  号，低电平有效。如不使用，  该管脚可悬空", AA22 NFALE (out) "NAND Flash地址锁存信号", AA23 NFRB (io) "NAND Flash的空闲指示信号。  0 ：忙；   1 ：空闲。   外接两片NAND Flash时，需要  将两片Flash器件的输出经过线  与后连接到本管脚", AB12 EBIDQ1 (io) "EBI 数据总线", AB13 EBIDQ4 (io) "EBI 数据总线", AB14 EBIADR0  (out) "EBI 地址总线", AB15 EBIADR4 (out) "EBI 地址总线", AB16 EBIADR7 (out) "EBI 地址总线", AB17 EBIADR11 (out) "EBI 地址总线", AB18 EBIADR14 (out) "EBI 地址总线", AB19 EBIADR16 (out) "EBI 地址总线", AB20 EBIADR18 (out) "EBI 地址总线", AB21 EBIADR20 (out) "EBI 地址总线", AB22 EBIADR22/FUNSEL (out) "EBI 地址总线", AB23 EBIADR23 (out) "EBI 地址总线", AC12 EBIDQ0 (io) "EBI 数据总线", AC13 EBIDQ3 (io) "EBI 数据总线", AC14 EBIDQ7 (io) "EBI 数据总线", AC15 EBIADR3 (out) "EBI 地址总线", AC16 EBIADR6 (out) "EBI 地址总线", AC17 EBIADR10 (out) "EBI 地址总线", AC18 EBIADR13 (out) "EBI 地址总线", AC19 EBIADR15 (out) "EBI 地址总线", AC20 EBIADR17 (out) "EBI 地址总线", AC21 EBIADR19 (out) "EBI 地址总线", AC22 EBIADR21 (out) "EBI 地址总线", Y13 EBIDQ6 (io) "EBI 数据总线", Y14 EBIADR2 (out) "EBI 地址总线", Y16 EBIADR9 (out) "EBI 地址总线", Y17 SMIOEN (io) "SMI 接口的读使能信号，低电  平有效", Y19 SMICS1N (io) "SMI 片选信号1 ，可配置成低电  平有效或高电平有效，默认为  低电平有效", Y20 NFCLE (out) "NAND Flash命令锁存信号", Y21 NFOEN (out) "NAND Flash的读使能信号，低  电平有效", Y22 NFCS0N (out) "NAND Flash片选信号0 ，低电  平有效。系统支持从该片选启  动", Y23 NFCS1N "NAND Flash片选信号1 ，低电  平有效"
part F pins: E1 VODAT2 (io) "标清图像输出数据DAT", E2 VODAT1 (io) "标清图像输出数据DAT", E3 VODAT0 (io) "标清图像输出数据DAT", F1 VODAT5 (io) "标清图像输出数据DAT", F2 VODAT4 (io) "标清图像输出数据DAT", F3 VOCK (io) "标清图像输出时钟", F4 VODAT3 (io) "标清图像输出数据DAT", G1 VI0HS (io) "VI0 接口的水平同步信号。如不  使用，该管脚可悬空", G2 VODAT7 (io) "标清图像输出数据DAT", G3 VODAT6 (io) "标清图像输出数据DAT", H1 VI0VS (io) "VI0 接口的垂直同步信号。如不  使用，该管脚可悬空", H2 VI0CK (in) "VI0 接口的时钟", H3 VI0DAT1 (in) "VI0 接口的数据DAT", H4 VI0DAT0 (in) "VI0 接口的时钟", J1 VI0DAT4 (in) "VI0 接口的数据DAT", J2 VI0DAT3 (in) "VI0 接口的数据DAT", J3 VI0DAT2 (in) "VI0 接口的数据DAT", K1 VI1DAT0 (in) "VI1 接口的数据DAT", K2 VI0DAT7 (in) "VI0 接口的数据DAT", K3 VI0DAT6 (in) "VI0 接口的数据DAT", K4 VI0DAT5 (in) "VI0 接口的数据DAT", L1 VI1DAT3 (in) "VI1 接口的数据DAT", L2 VI1DAT2 (in) "VI1 接口的数据DAT", L3 VI1DAT1 (in) "VI1 接口的数据DAT", M1 VI1DAT6 (in) "VI1 接口的数据DAT", M2 VI1DAT5 (in) "VI1 接口的数据DAT", M3 VI1DAT4 (in) "VI1 接口的数据DAT", M4 VI1CK  (in) "VI1 接口的时钟", N1 VI1DAT7 (in) "VI1 接口的数据DAT", N2 VI2VS (in) "VI2 接口的垂直同步信号。如不  使用，该管脚可悬空", N3 VI2HS  (in) "VI2 接口的水平同步信号。如不  使用，该管脚可悬空", P1 VI2DAT3 (in) "VI2 接口的时钟", P2 VI2DAT2 (in) "VI2 接口的时钟", P3 VI2DAT1 (in) "VI2 接口的时钟", P4 VI2DAT0 (in) "VI2 接口的时钟", R1 VI2DAT5 (in) "VI2 接口的时钟", R2 VI2DAT4 (in) "VI2 接口的时钟", R3 VI2CK  (in) "VI2 接口的时钟", T1 VI2DAT7 (in) "VI2 接口的时钟", T2 VI2DAT6 (in) "VI2 接口的时钟", T3 VI3DAT1 (io) "VI3 接口的数据DAT0", T4 VI3DAT0 (io) "VI3 接口的数据DAT0", U1 VI3DAT2 (io) "VI3 接口的数据DAT0", U2 VI3DAT3 (io) "VI3 接口的数据DAT0", U3 VI3CK (in) "VI3 接口的时钟", U4 VI3DAT4 (io) "VI3 接口的数据DAT0", V1 VI3DAT5 (io) "VI3 接口的数据DAT0", V2 VI3DAT6 (io) "VI3 接口的数据DAT0", V3 VI3DAT7 (io) "VI3 接口的数据DAT0"
part G pins: AA10 USBDP1 (io) "USB 2.0 HOST端口1 D+差分数  据总线，为模拟信号", AB10 USBDM0 (io) "USB 2.0 HOST端口0 D- 差分数  据总线，为模拟信号", AC10 USBDP0 (io) "USB 2.0 HOST端口0 D+差分数  据总线，为模拟信号", G22 UTXD1 (out) "UART1数据发送", G23 UCTSN1 (in) "SATA 端口1 的正相差分数据输出", H21 URXD1 (in) "UART1数据接收", H22 URTSN1 (out) "UART1的RTSN 信号", H23 URTSN2 (in) "UART0数据接收", J20 SDA (io) "I  2  C 总线数据/ 地址，OD输出。  PCB 上需要外界上拉电阻", J21 SCL (io) "I  2  C 总线时钟，OD输出。PCB  上需要外界上拉电阻", J22 UTXD0 (out) "UART1数据接收", K23 XOUT24 (out) "24MHz晶振时钟输出。如果接  钟振，该管脚悬空", K23 XOUT24, L22 TESTMODE (in) "功能模式和ARM debug 模式选  择。   0 ：正常工作模式，ARM可进  入debug 模式；   1 ：测试模式", L23 XIN24  (in) "24MHz晶振时钟输入", L23 XIN24, M21 RSTN  (in) "系统上电复位信号输入，低电  平有效", M22 WDGRSTN (out) "看门狗复位输出，低电平有  效，OD输出", N20 TCK (in) "JTAG 时钟输入", N21 TMS (in) "JTAG 模式选择输入", N22 TDO  (out) "JTAG 数据输出", N23 TDI  (in) "JTAG 数据输入", P20 SRESREF (io) "SATA 的扩展电阻管脚，外接  190? 扩展电阻", P21 TRSTN (in) "JTAG 复位输入，低电平有效", R22 SREFCKM (in) "SATA 的负相差分时钟输入", R23 SREFCKP (in) "SATA 的正相差分时钟输入", T20 STXP1 (out) "SATA 端口1 的正相差分数据输出", T21 STXM1 (out) "SATA 端口1 的负相差分数据输  出", U22 SRXM1 (in) "SATA 端口1 的负相差分数据输  入", U23 SRXP1 (in) "SATA 端口1 的正相差分数据输  入", V19 STXM0 (out) "SATA 端口0 的负相差分数据输  出", V20 STXP0 (out) "SATA 端口0 的正相差分数据输  出", V22 SRXM0 (in) "SATA 端口0 的负相差分数据输  入", V23 SRXP0 (in) "SATA 端口0 的正相差分数据输  入", W10 USBREXT (io) "USB 2.0 HOST外置电阻连接  端", Y10 USBDM1 (io) "USB 2.0 HOUSB 2.0 HOST端口1 D- 差分数  据总线，为模拟信号"
part A text: HI3515_电源; DAC; OTHER I/O V33; PLL; DDR2; CORE; STATA; USB
part B text: HI3515_电源; DAC; PLL; USB; 其他数字地
part C text: HI3515_ETH&SIO&DAC
part D text: HI3515_DDR
part E text: HI3515_EBI
part F text: HI3515_VI
part G text: JTAG; HI3515SYS; IIC; URAT; USB; SATA

## HR8826
designator U?
footprint TSSOP28-PAD (Footprint not found)
pins: 1 CP1, 2 CP2, 3 VCP, 4 VMA, 5 AOUT1, 6 ISENA, 7 AOUT2, 8 BOUT2, 9 ISENB, 10 BOUT1, 11 VMB, 12 AVREF, 13 BVREF, 14 GND, 15 V3P3OUT, 16 nRESET, 17 nSLEEP, 18 nFAULT, 19 DECAY, 20 DIR, 21 nENABLE, 22 STEP, 23 NC, 24 MODE0, 25 MODE1, 26 MODE2, 27 nHOME, 28 GND, 29 PDA

## HR911105A
designator J?
footprint HR911105A (Footprint not found)
pins: 1, 2, 3, 4, 5, 6, 9 L+, 10 L-, 11 R-, 12 R+, 13, 14
text: TD+; 1 TX+; TD-; 2 TX-; RD+; 3 RX+; RD-; 6 RX-; Green; 7; 8; Yellow; ETH

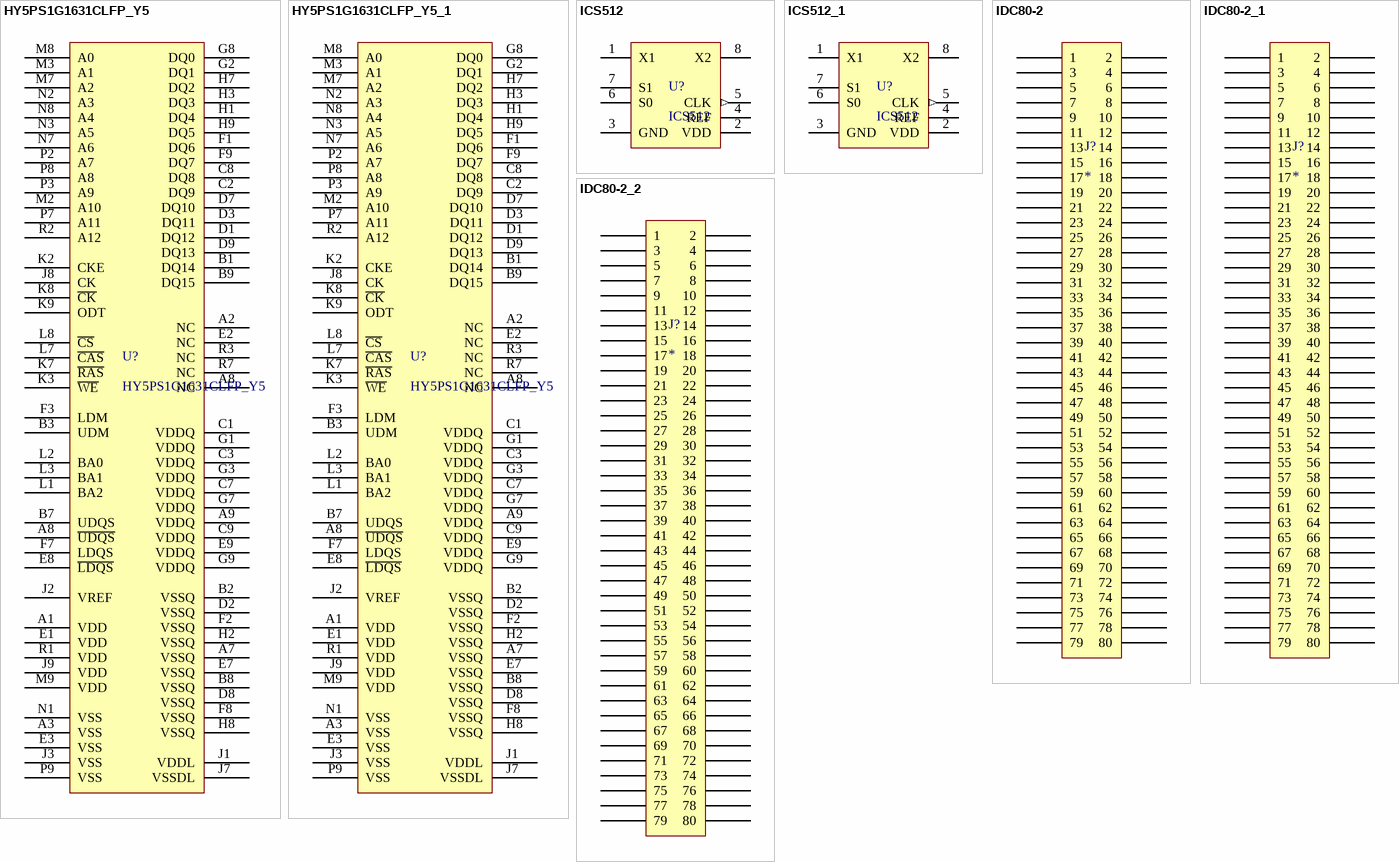
[diagram p8: symbols HY5PS1G1631CLFP_Y5 to IDC80-2_2]

## HY5PS1G1631CLFP_Y5
designator U?
footprint FBGA84 (Footprint not found)
pins: A1 VDD, A2 NC, A3 VSS, A7 VSSQ, A8 ~{UDQS}, A8 NC, A9 VDDQ, B1 DQ14, B2 VSSQ, B3 UDM, B7 UDQS, B8 VSSQ, B9 DQ15, C1 VDDQ, C2 DQ9, C3 VDDQ, C7 VDDQ, C8 DQ8, C9 VDDQ, D1 DQ12, D2 VSSQ, D3 DQ11, D7 DQ10, D8 VSSQ, D9 DQ13, E1 VDD, E2 NC, E3 VSS, E7 VSSQ, E8 ~{LDQS}, E9 VDDQ, F1 DQ6, F2 VSSQ, F3 LDM, F7 LDQS, F8 VSSQ, F9 DQ7, G1 VDDQ, G2 DQ1, G3 VDDQ, G7 VDDQ, G8 DQ0, G9 VDDQ, H1 DQ4, H2 VSSQ, H3 DQ3, H7 DQ2, H8 VSSQ, H9 DQ5, J1 VDDL, J2 VREF, J3 VSS, J7 VSSDL, J8 CK, J9 VDD, K2 CKE, K3 ~{WE}, K7 ~{RAS}, K8 ~{CK}, K9 ODT, L1 BA2, L2 BA0, L3 BA1, L7 ~{CAS}, L8 ~{CS}, M2 A10, M3 A1, M7 A2, M8 A0, M9 VDD, N1 VSS, N2 A3, N3 A5, N7 A6, N8 A4, P2 A7, P3 A9, P7 A11, P8 A8, P9 VSS, R1 VDD, R2 A12, R3 NC, R7 NC

## HY5PS1G1631CLFP_Y5_1
designator U?, comment HY5PS1G1631CLFP_Y5
footprint FBGA84 (Footprint not found)
pins: A1 VDD, A2 NC, A3 VSS, A7 VSSQ, A8 ~{UDQS}, A8 NC, A9 VDDQ, B1 DQ14, B2 VSSQ, B3 UDM, B7 UDQS, B8 VSSQ, B9 DQ15, C1 VDDQ, C2 DQ9, C3 VDDQ, C7 VDDQ, C8 DQ8, C9 VDDQ, D1 DQ12, D2 VSSQ, D3 DQ11, D7 DQ10, D8 VSSQ, D9 DQ13, E1 VDD, E2 NC, E3 VSS, E7 VSSQ, E8 ~{LDQS}, E9 VDDQ, F1 DQ6, F2 VSSQ, F3 LDM, F7 LDQS, F8 VSSQ, F9 DQ7, G1 VDDQ, G2 DQ1, G3 VDDQ, G7 VDDQ, G8 DQ0, G9 VDDQ, H1 DQ4, H2 VSSQ, H3 DQ3, H7 DQ2, H8 VSSQ, H9 DQ5, J1 VDDL, J2 VREF, J3 VSS, J7 VSSDL, J8 CK, J9 VDD, K2 CKE, K3 ~{WE}, K7 ~{RAS}, K8 ~{CK}, K9 ODT, L1 BA2, L2 BA0, L3 BA1, L7 ~{CAS}, L8 ~{CS}, M2 A10, M3 A1, M7 A2, M8 A0, M9 VDD, N1 VSS, N2 A3, N3 A5, N7 A6, N8 A4, P2 A7, P3 A9, P7 A11, P8 A8, P9 VSS, R1 VDD, R2 A12, R3 NC, R7 NC

## ICS512
designator U?
footprint SOP-8
pins: 1 X1, 2 VDD, 3 GND, 4 REF, 5 CLK (out), 6 S0, 7 S1, 8 X2

## ICS512_1
designator U?, comment ICS512
footprint SOP-8
pins: 1 X1, 2 VDD, 3 GND, 4 REF, 5 CLK (out), 6 S0, 7 S1, 8 X2

## IDC80-2
designator J?
footprint IDC80 (Footprint not found)
pins: 1, 2, 3, 4, 5, 6, 7, 8, 9, 10, 11, 12, 13, 14, 15, 16, 17, 18, 19, 20, 21, 22, 23, 24, 25, 26, 27, 28, 29, 30, 31, 32, 33, 34, 35, 36, 37, 38, 39, 40, 41, 42, 43, 44, 45, 46, 47, 48, 49, 50, 51, 52, 53, 54, 55, 56, 57, 58, 59, 60, 61, 62, 63, 64, 65, 66, 67, 68, 69, 70, 71, 72, 73, 74, 75, 76, 77, 78, 79, 80

## IDC80-2_1
designator J?
footprint IDC80 (Footprint not found)
pins: 1, 2, 3, 4, 5, 6, 7, 8, 9, 10, 11, 12, 13, 14, 15, 16, 17, 18, 19, 20, 21, 22, 23, 24, 25, 26, 27, 28, 29, 30, 31, 32, 33, 34, 35, 36, 37, 38, 39, 40, 41, 42, 43, 44, 45, 46, 47, 48, 49, 50, 51, 52, 53, 54, 55, 56, 57, 58, 59, 60, 61, 62, 63, 64, 65, 66, 67, 68, 69, 70, 71, 72, 73, 74, 75, 76, 77, 78, 79, 80

## IDC80-2_2
designator J?
footprint IDC80 (Footprint not found)
pins: 1, 2, 3, 4, 5, 6, 7, 8, 9, 10, 11, 12, 13, 14, 15, 16, 17, 18, 19, 20, 21, 22, 23, 24, 25, 26, 27, 28, 29, 30, 31, 32, 33, 34, 35, 36, 37, 38, 39, 40, 41, 42, 43, 44, 45, 46, 47, 48, 49, 50, 51, 52, 53, 54, 55, 56, 57, 58, 59, 60, 61, 62, 63, 64, 65, 66, 67, 68, 69, 70, 71, 72, 73, 74, 75, 76, 77, 78, 79, 80

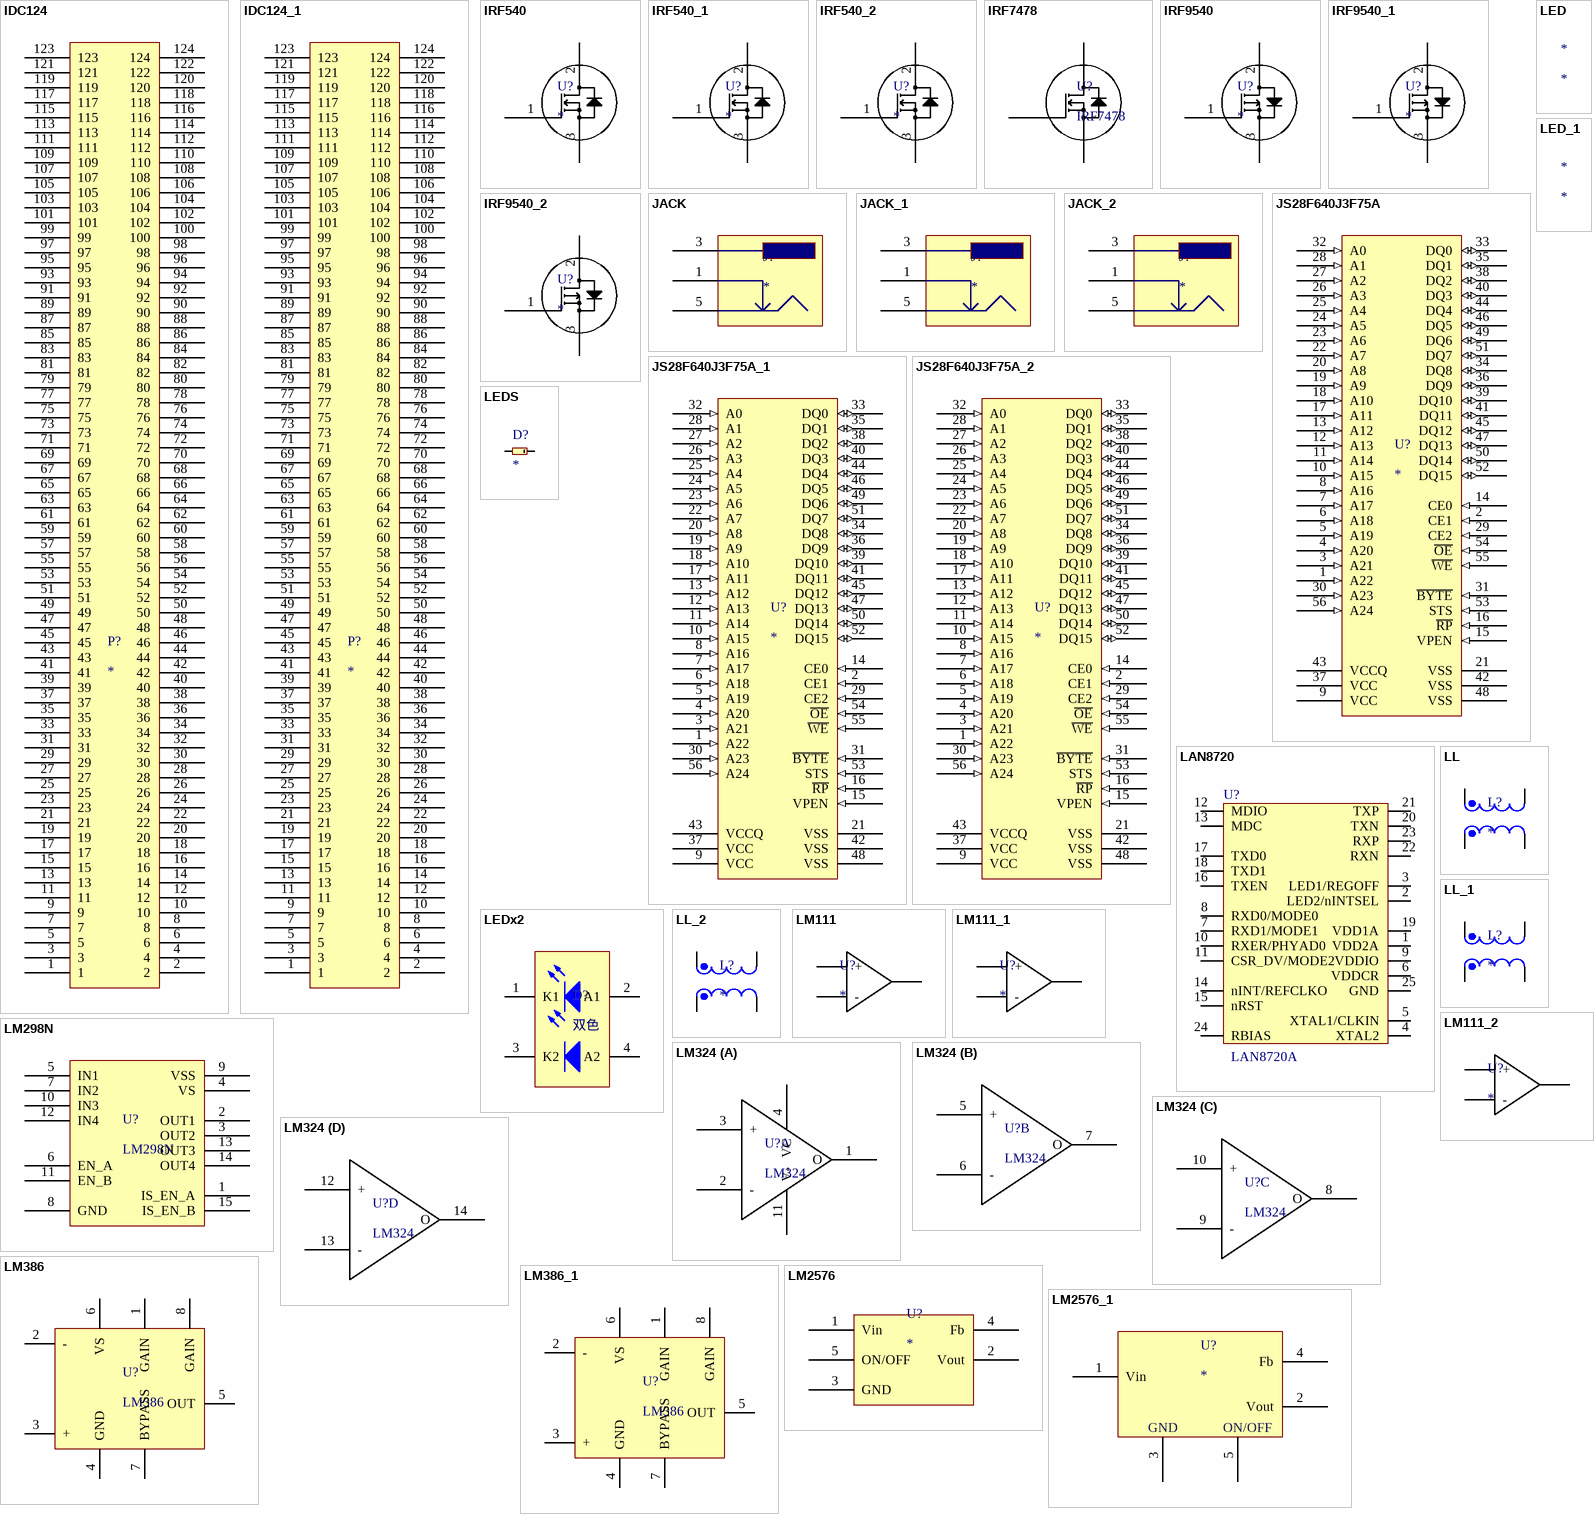
[diagram p9: symbols IDC124 to LM2576_1]

## IDC124
designator P?
footprint IDC2.0-124 (Footprint not found)
pins: 1, 2, 3, 4, 5, 6, 7, 8, 9, 10, 11, 12, 13, 14, 15, 16, 17, 18, 19, 20, 21, 22, 23, 24, 25, 26, 27, 28, 29, 30, 31, 32, 33, 34, 35, 36, 37, 38, 39, 40, 41, 42, 43, 44, 45, 46, 47, 48, 49, 50, 51, 52, 53, 54, 55, 56, 57, 58, 59, 60, 61, 62, 63, 64, 65, 66, 67, 68, 69, 70, 71, 72, 73, 74, 75, 76, 77, 78, 79, 80, 81, 82, 83, 84, 85, 86, 87, 88, 89, 90, 91, 92, 93, 94, 95, 96, 97, 98, 99, 100, 101, 102, 103, 104, 105, 106, 107, 108, 109, 110, 111, 112, 113, 114, 115, 116, 117, 118, 119, 120, 121, 122, 123, 124

## IDC124_1
designator P?
footprint IDC2.0-124 (Footprint not found)
pins: 1, 2, 3, 4, 5, 6, 7, 8, 9, 10, 11, 12, 13, 14, 15, 16, 17, 18, 19, 20, 21, 22, 23, 24, 25, 26, 27, 28, 29, 30, 31, 32, 33, 34, 35, 36, 37, 38, 39, 40, 41, 42, 43, 44, 45, 46, 47, 48, 49, 50, 51, 52, 53, 54, 55, 56, 57, 58, 59, 60, 61, 62, 63, 64, 65, 66, 67, 68, 69, 70, 71, 72, 73, 74, 75, 76, 77, 78, 79, 80, 81, 82, 83, 84, 85, 86, 87, 88, 89, 90, 91, 92, 93, 94, 95, 96, 97, 98, 99, 100, 101, 102, 103, 104, 105, 106, 107, 108, 109, 110, 111, 112, 113, 114, 115, 116, 117, 118, 119, 120, 121, 122, 123, 124

## IRF540
designator U?
footprint TO-220-3
pins: 1 G, 2 D, 3 S

## IRF540_1
designator U?
footprint TO-220-3
pins: 1 G, 2 D, 3 S

## IRF540_2
designator U?
footprint TO-220-3
pins: 1 G, 2 D, 3 S

## IRF7478
designator U?
footprint SOP-8
pins: 1 S, 2 S hidden to 1, 3 S hidden to 1, 4 G, 5 D, 6 D hidden to 5, 7 D hidden to 5, 8 D hidden to 5

## IRF9540
designator U?
footprint TO-220-3
pins: 1 G, 2 D, 3 S

## IRF9540_1
designator U?
footprint TO-220-3
pins: 1 G, 2 D, 3 S

## IRF9540_2
designator U?
footprint TO-220-3
pins: 1 G, 2 D, 3 S

## JACK
designator J?
footprint JACK3
pins: 1, 3, 5

## JACK_1
designator J?
footprint JACK3
pins: 1, 3, 5

## JACK_2
designator J?
footprint JACK3
pins: 1, 3, 5

## JS28F640J3F75A
designator U?
footprint TSOP56 (Footprint not found)
pins: 1 A22 (in), 2 CE1 (in), 3 A21 (in), 4 A20 (in), 5 A19 (in), 6 A18 (in), 7 A17 (in), 8 A16 (in), 9 VCC (power), 10 A15 (in), 11 A14 (in), 12 A13 (in), 13 A12 (in), 14 CE0 (in), 15 VPEN (in), 16 ~{RP} (in), 17 A11 (in), 18 A10 (in), 19 A9 (in), 20 A8 (in), 21 VSS (power), 22 A7 (in), 23 A6 (in), 24 A5 (in), 25 A4 (in), 26 A3 (in), 27 A2 (in), 28 A1 (in), 29 CE2 (in), 30 A23 (in), 31 ~{BYTE} (in), 32 A0 (in), 33 DQ0 (io), 34 DQ8 (io), 35 DQ1 (io), 36 DQ9 (io), 37 VCC (power), 38 DQ2 (io), 39 DQ10 (io), 40 DQ3 (io), 41 DQ11 (io), 42 VSS (power), 43 VCCQ (power), 44 DQ4 (io), 45 DQ12 (io), 46 DQ5 (io), 47 DQ13 (io), 48 VSS (power), 49 DQ6 (io), 50 DQ14 (io), 51 DQ7 (io), 52 DQ15 (io), 53 STS (in), 54 ~{OE} (in), 55 ~{WE} (in), 56 A24 (in)

## JS28F640J3F75A_1
designator U?
footprint TSOP56 (Footprint not found)
pins: 1 A22 (in), 2 CE1 (in), 3 A21 (in), 4 A20 (in), 5 A19 (in), 6 A18 (in), 7 A17 (in), 8 A16 (in), 9 VCC (power), 10 A15 (in), 11 A14 (in), 12 A13 (in), 13 A12 (in), 14 CE0 (in), 15 VPEN (in), 16 ~{RP} (in), 17 A11 (in), 18 A10 (in), 19 A9 (in), 20 A8 (in), 21 VSS (power), 22 A7 (in), 23 A6 (in), 24 A5 (in), 25 A4 (in), 26 A3 (in), 27 A2 (in), 28 A1 (in), 29 CE2 (in), 30 A23 (in), 31 ~{BYTE} (in), 32 A0 (in), 33 DQ0 (io), 34 DQ8 (io), 35 DQ1 (io), 36 DQ9 (io), 37 VCC (power), 38 DQ2 (io), 39 DQ10 (io), 40 DQ3 (io), 41 DQ11 (io), 42 VSS (power), 43 VCCQ (power), 44 DQ4 (io), 45 DQ12 (io), 46 DQ5 (io), 47 DQ13 (io), 48 VSS (power), 49 DQ6 (io), 50 DQ14 (io), 51 DQ7 (io), 52 DQ15 (io), 53 STS (in), 54 ~{OE} (in), 55 ~{WE} (in), 56 A24 (in)

## JS28F640J3F75A_2
designator U?
footprint TSOP56 (Footprint not found)
pins: 1 A22 (in), 2 CE1 (in), 3 A21 (in), 4 A20 (in), 5 A19 (in), 6 A18 (in), 7 A17 (in), 8 A16 (in), 9 VCC (power), 10 A15 (in), 11 A14 (in), 12 A13 (in), 13 A12 (in), 14 CE0 (in), 15 VPEN (in), 16 ~{RP} (in), 17 A11 (in), 18 A10 (in), 19 A9 (in), 20 A8 (in), 21 VSS (power), 22 A7 (in), 23 A6 (in), 24 A5 (in), 25 A4 (in), 26 A3 (in), 27 A2 (in), 28 A1 (in), 29 CE2 (in), 30 A23 (in), 31 ~{BYTE} (in), 32 A0 (in), 33 DQ0 (io), 34 DQ8 (io), 35 DQ1 (io), 36 DQ9 (io), 37 VCC (power), 38 DQ2 (io), 39 DQ10 (io), 40 DQ3 (io), 41 DQ11 (io), 42 VSS (power), 43 VCCQ (power), 44 DQ4 (io), 45 DQ12 (io), 46 DQ5 (io), 47 DQ13 (io), 48 VSS (power), 49 DQ6 (io), 50 DQ14 (io), 51 DQ7 (io), 52 DQ15 (io), 53 STS (in), 54 ~{OE} (in), 55 ~{WE} (in), 56 A24 (in)

## LAN8720
designator U?, comment LAN8720A
ETH PHY
footprint QFN24 (QFN, 24-Leads, Body 4.0x4.0mm (max), Pitch 0.50mm, IPC Medium Density)
footprint QFN24-G
pins: 1 VDD2A, 2 LED2/nINTSEL, 3 LED1/REGOFF, 4 XTAL2, 5 XTAL1/CLKIN, 6 VDDCR, 7 RXD1/MODE1, 8 RXD0/MODE0, 9 VDDIO, 10 RXER/PHYAD0, 11 CSR_DV/MODE2, 12 MDIO, 13 MDC, 14 nINT/REFCLKO, 15 nRST, 16 TXEN, 17 TXD0, 18 TXD1, 19 VDD1A, 20 TXN, 21 TXP, 22 RXN, 23 RXP, 24 RBIAS, 25 GND

## LED
designator *

## LED_1
designator *

## LEDS
designator D?
footprint 0805a
pins: a, k
1 alternate drawing of the same symbol

## LEDx2
designator D?, comment 双色
footprint 0805-2-LED
pins: 1 K1, 2 A1, 3 K2, 4 A2

## LL
designator L?
pins: 1, 2, 3, 4

## LL_1
designator L?
pins: 1, 2, 3, 4

## LL_2
designator L?
pins: 1, 2, 3, 4

## LM111
designator U?
pins: 9 +, 10 -, 11

## LM111_1
designator U?
pins: 9 +, 10 -, 11

## LM111_2
designator U?
pins: 9 +, 10 -, 11

## LM298N
designator U?
footprint QD1
pins: 1 IS_EN_A, 2 OUT1, 3 OUT2, 4 VS, 5 IN1, 6 EN_A, 7 IN2, 8 GND, 9 VSS, 10 IN3, 11 EN_B, 12 IN4, 13 OUT3, 14 OUT4, 15 IS_EN_B

## LM324
designator U?
footprint SOP14
part A pins: 1 O, 2 -, 3 +, 4 VC, 11 V-
part B pins: 5 +, 6 -, 7 O
part C pins: 8 O, 9 -, 10 +
part D pins: 12 +, 13 -, 14 O

## LM386
designator U?
footprint PDIP8
footprint SOP-8
pins: 1 GAIN, 2 -, 3 +, 4 GND, 5 OUT, 6 VS, 7 BYPASS, 8 GAIN

## LM386_1
designator U?, comment LM386
footprint PDIP8
footprint SOP-8
pins: 1 GAIN, 2 -, 3 +, 4 GND, 5 OUT, 6 VS, 7 BYPASS, 8 GAIN

## LM2576
designator U?
footprint TO-220-5 (Footprint not found)
pins: 1 Vin, 2 Vout, 3 GND, 4 Fb, 5 ON/OFF

## LM2576_1
designator U?
footprint TO-220-5 (Footprint not found)
footprint TO-263 (Footprint not found)
pins: 1 Vin, 2 Vout, 3 GND, 4 Fb, 5 ON/OFF

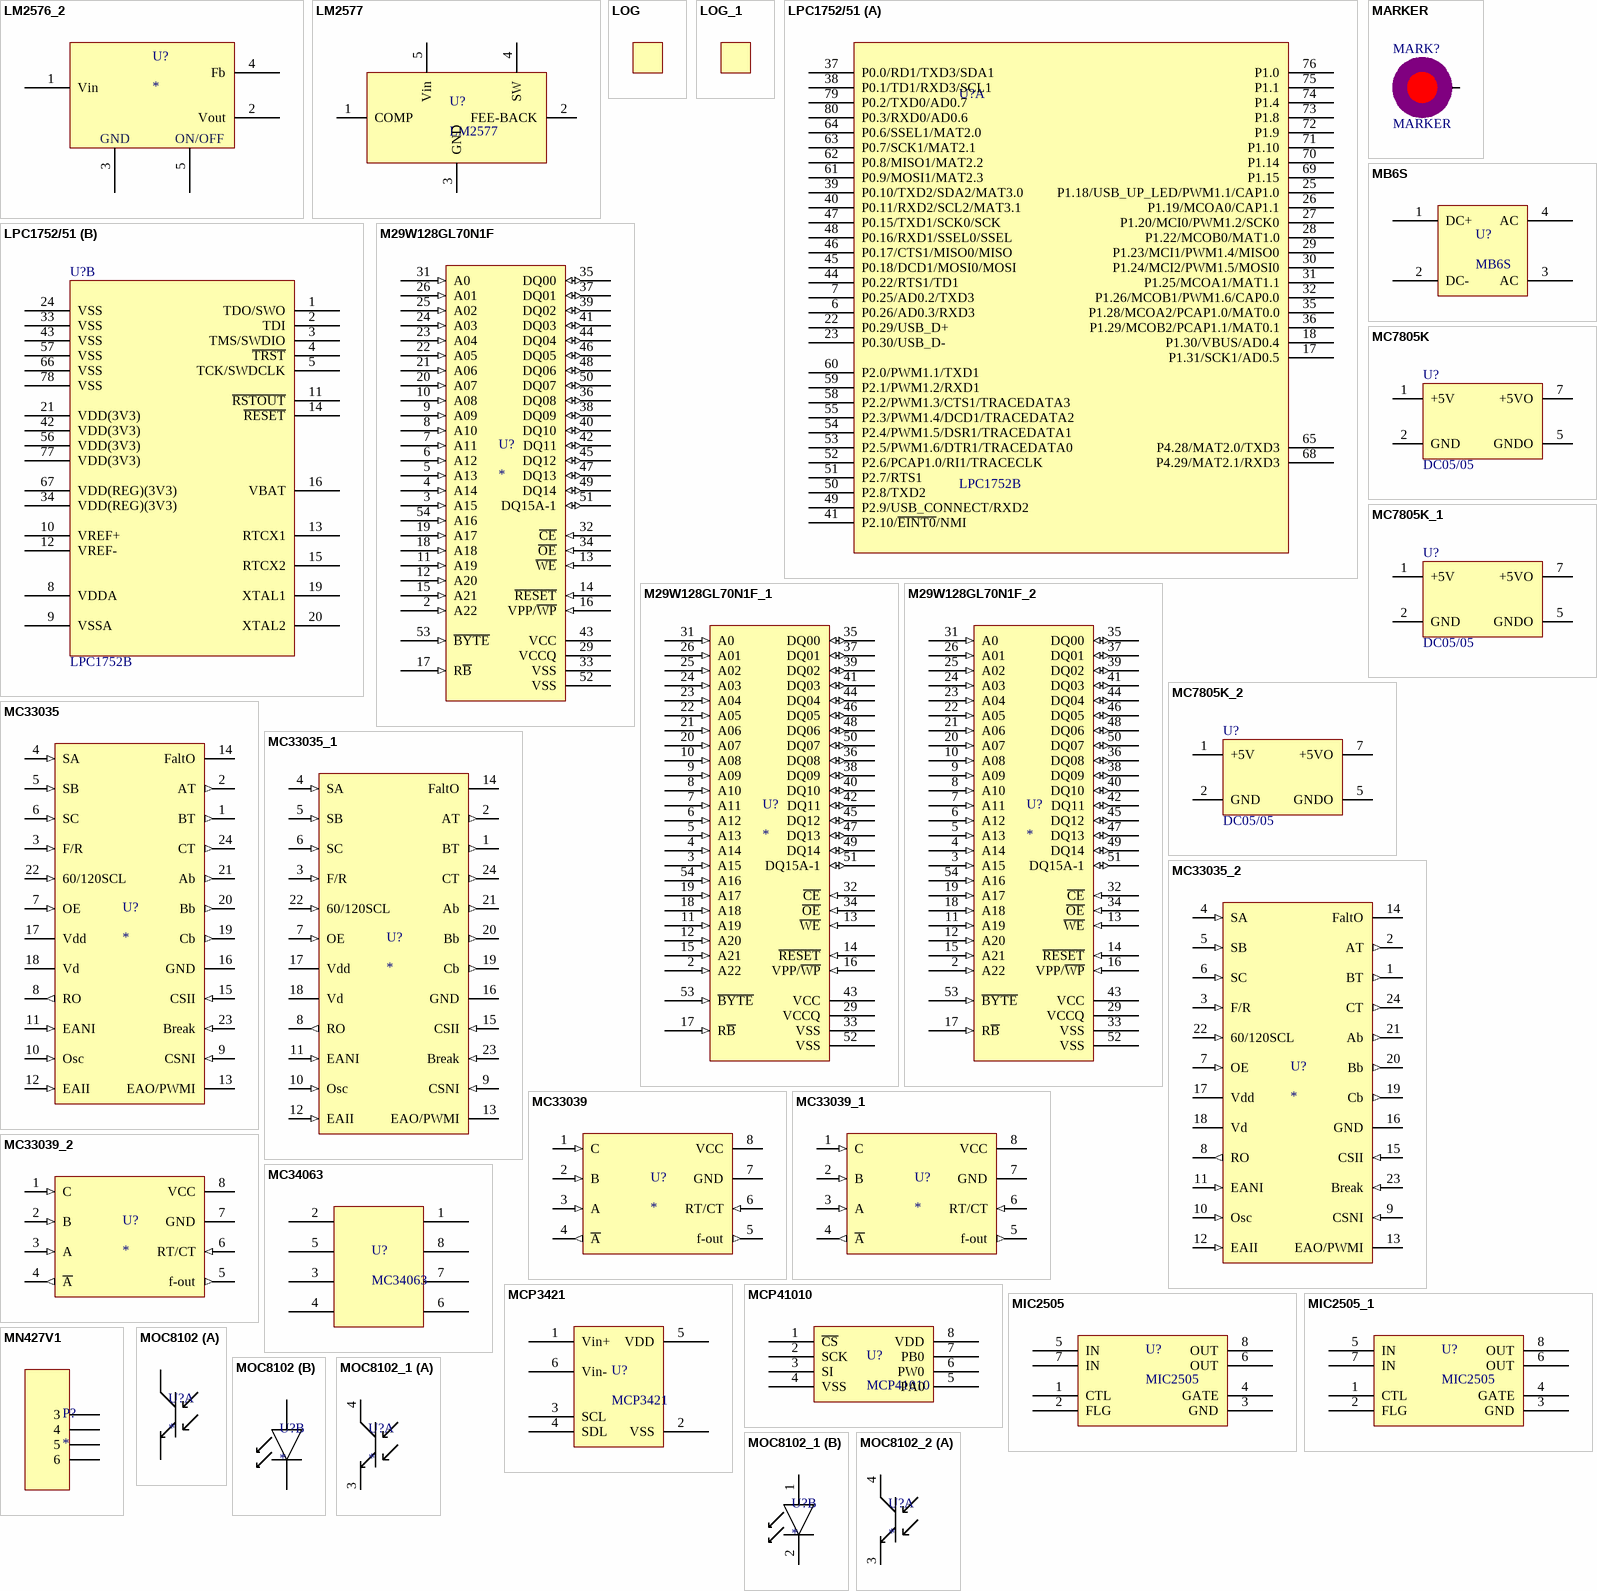
[diagram p10: symbols LM2576_2 to MOC8102_2]

## LM2576_2
designator U?
footprint TO-220-5 (Footprint not found)
footprint TO-263 (Footprint not found)
pins: 1 Vin, 2 Vout, 3 GND, 4 Fb, 5 ON/OFF

## LM2577
designator U?
footprint TO-263
pins: 1 COMP, 2 FEE-BACK, 3 GND, 4 SW, 5 Vin

## LOG
designator LOG?, comment HRILOG  (value not drawn)
footprint LOG4 VDSON
footprint HRILOG
footprint HRILOG6X3.5

## LOG_1
designator LOG?, comment HRILOG  (value not drawn)
footprint LOG4 VDSON
footprint HRILOG
footprint HRILOG6X3.5

## LPC1752/51
designator U?, comment LPC1752B
footprint LQFP80 (Footprint not found)
part A pins: 6 P0.26/AD0.3/RXD3, 7 P0.25/AD0.2/TXD3, 17 P1.31/SCK1/AD0.5, 18 P1.30/VBUS/AD0.4, 22 P0.29/USB_D+, 23 P0.30/USB_D-, 25 P1.18/USB_UP_LED/PWM1.1/CAP1.0, 26 P1.19/MCOA0/CAP1.1, 27 P1.20/MCI0/PWM1.2/SCK0, 28 P1.22/MCOB0/MAT1.0, 29 P1.23/MCI1/PWM1.4/MISO0, 30 P1.24/MCI2/PWM1.5/MOSI0, 31 P1.25/MCOA1/MAT1.1, 32 P1.26/MCOB1/PWM1.6/CAP0.0, 35 P1.28/MCOA2/PCAP1.0/MAT0.0, 36 P1.29/MCOB2/PCAP1.1/MAT0.1, 37 P0.0/RD1/TXD3/SDA1, 38 P0.1/TD1/RXD3/SCL1, 39 P0.10/TXD2/SDA2/MAT3.0, 40 P0.11/RXD2/SCL2/MAT3.1, 41 P2.10/~{EINT0}/NMI, 44 P0.22/RTS1/TD1, 45 P0.18/DCD1/MOSI0/MOSI, 46 P0.17/CTS1/MISO0/MISO, 47 P0.15/TXD1/SCK0/SCK, 48 P0.16/RXD1/SSEL0/SSEL, 49 P2.9/USB_CONNECT/RXD2, 50 P2.8/TXD2, 51 P2.7/RTS1, 52 P2.6/PCAP1.0/RI1/TRACECLK, 53 P2.5/PWM1.6/DTR1/TRACEDATA0, 54 P2.4/PWM1.5/DSR1/TRACEDATA1, 55 P2.3/PWM1.4/DCD1/TRACEDATA2, 58 P2.2/PWM1.3/CTS1/TRACEDATA3, 59 P2.1/PWM1.2/RXD1, 60 P2.0/PWM1.1/TXD1, 61 P0.9/MOSI1/MAT2.3, 62 P0.8/MISO1/MAT2.2, 63 P0.7/SCK1/MAT2.1, 64 P0.6/SSEL1/MAT2.0, 65 P4.28/MAT2.0/TXD3, 68 P4.29/MAT2.1/RXD3, 69 P1.15, 70 P1.14, 71 P1.10, 72 P1.9, 73 P1.8, 74 P1.4, 75 P1.1, 76 P1.0, 79 P0.2/TXD0/AD0.7, 80 P0.3/RXD0/AD0.6
part B pins: 1 TDO/SWO, 2 TDI, 3 TMS/SWDIO, 4 ~{TRST}, 5 TCK/SWDCLK, 8 VDDA, 9 VSSA, 10 VREF+, 11 ~{RSTOUT}, 12 VREF-, 13 RTCX1, 14 ~{RESET}, 15 RTCX2, 16 VBAT, 19 XTAL1, 20 XTAL2, 21 VDD(3V3), 24 VSS, 33 VSS, 34 VDD(REG)(3V3), 42 VDD(3V3), 43 VSS, 56 VDD(3V3), 57 VSS, 66 VSS, 67 VDD(REG)(3V3), 77 VDD(3V3), 78 VSS

## M29W128GL70N1F
designator U?
M29W128GL70N1F-128Mb
footprint TSOP-56 (Footprint not found)
pins: 1 NC hidden, 2 A22 (in), 3 A15 (in), 4 A14 (in), 5 A13 (in), 6 A12 (in), 7 A11 (in), 8 A10 (in), 9 A09 (in), 10 A08 (in), 11 A19 (in), 12 A20 (in), 13 ~{WE} (in), 14 ~{RESET} (in), 15 A21 (in), 16 VPP/~{WP} (in), 17 R~{B} (in), 18 A18 (in), 19 A17 (in), 20 A07 (in), 21 A06 (in), 22 A05 (in), 23 A04 (in), 24 A03 (in), 25 A02 (in), 26 A01 (in), 27 NC hidden, 28 NC hidden, 29 VCCQ (power), 30 NC hidden, 31 A0 (in), 32 ~{CE} (in), 33 VSS (power), 34 ~{OE} (in), 35 DQ00 (io), 36 DQ08 (io), 37 DQ01 (io), 38 DQ09 (io), 39 DQ02 (io), 40 DQ10 (io), 41 DQ03 (io), 42 DQ11 (io), 43 VCC (power), 44 DQ04 (io), 45 DQ12 (io), 46 DQ05 (io), 47 DQ13 (io), 48 DQ06 (io), 49 DQ14 (io), 50 DQ07 (io), 51 DQ15A-1 (io), 52 VSS (power), 53 ~{BYTE} (in), 54 A16 (in), 55 NC hidden, 56 NC hidden

## M29W128GL70N1F_1
designator U?
M29W128GL70N1F-128Mb
footprint TSOP-56 (Footprint not found)
pins: 1 NC hidden, 2 A22 (in), 3 A15 (in), 4 A14 (in), 5 A13 (in), 6 A12 (in), 7 A11 (in), 8 A10 (in), 9 A09 (in), 10 A08 (in), 11 A19 (in), 12 A20 (in), 13 ~{WE} (in), 14 ~{RESET} (in), 15 A21 (in), 16 VPP/~{WP} (in), 17 R~{B} (in), 18 A18 (in), 19 A17 (in), 20 A07 (in), 21 A06 (in), 22 A05 (in), 23 A04 (in), 24 A03 (in), 25 A02 (in), 26 A01 (in), 27 NC hidden, 28 NC hidden, 29 VCCQ (power), 30 NC hidden, 31 A0 (in), 32 ~{CE} (in), 33 VSS (power), 34 ~{OE} (in), 35 DQ00 (io), 36 DQ08 (io), 37 DQ01 (io), 38 DQ09 (io), 39 DQ02 (io), 40 DQ10 (io), 41 DQ03 (io), 42 DQ11 (io), 43 VCC (power), 44 DQ04 (io), 45 DQ12 (io), 46 DQ05 (io), 47 DQ13 (io), 48 DQ06 (io), 49 DQ14 (io), 50 DQ07 (io), 51 DQ15A-1 (io), 52 VSS (power), 53 ~{BYTE} (in), 54 A16 (in), 55 NC hidden, 56 NC hidden

## M29W128GL70N1F_2
designator U?
M29W128GL70N1F-128Mb
footprint TSOP-56 (Footprint not found)
pins: 1 NC hidden, 2 A22 (in), 3 A15 (in), 4 A14 (in), 5 A13 (in), 6 A12 (in), 7 A11 (in), 8 A10 (in), 9 A09 (in), 10 A08 (in), 11 A19 (in), 12 A20 (in), 13 ~{WE} (in), 14 ~{RESET} (in), 15 A21 (in), 16 VPP/~{WP} (in), 17 R~{B} (in), 18 A18 (in), 19 A17 (in), 20 A07 (in), 21 A06 (in), 22 A05 (in), 23 A04 (in), 24 A03 (in), 25 A02 (in), 26 A01 (in), 27 NC hidden, 28 NC hidden, 29 VCCQ (power), 30 NC hidden, 31 A0 (in), 32 ~{CE} (in), 33 VSS (power), 34 ~{OE} (in), 35 DQ00 (io), 36 DQ08 (io), 37 DQ01 (io), 38 DQ09 (io), 39 DQ02 (io), 40 DQ10 (io), 41 DQ03 (io), 42 DQ11 (io), 43 VCC (power), 44 DQ04 (io), 45 DQ12 (io), 46 DQ05 (io), 47 DQ13 (io), 48 DQ06 (io), 49 DQ14 (io), 50 DQ07 (io), 51 DQ15A-1 (io), 52 VSS (power), 53 ~{BYTE} (in), 54 A16 (in), 55 NC hidden, 56 NC hidden

## MARKER
designator MARK?
footprint MARKER-C
footprint MARKER-S
pins: 0

## MB6S
designator U?
footprint SOP4
pins: 1 DC+, 2 DC-, 3 AC, 4 AC

## MC7805K
designator U?, comment DC05/05
footprint TO-3
footprint YAOHUA05S05-1W
pins: 1 +5V (power), 2 GND (power), 5 GNDO (power), 7 +5VO
2 alternate drawings of the same symbol

## MC7805K_1
designator U?, comment DC05/05
footprint TO-3
footprint YAOHUA05S05-1W
pins: 1 +5V (power), 2 GND (power), 5 GNDO (power), 7 +5VO
2 alternate drawings of the same symbol

## MC7805K_2
designator U?, comment DC05/05
footprint TO-3
footprint YAOHUA05S05-1W
pins: 1 +5V (power), 2 GND (power), 5 GNDO (power), 7 +5VO
2 alternate drawings of the same symbol

## MC33035
designator U?
footprint SOP-24 (Footprint not found)
pins: 1 BT (out), 2 AT (out), 3 F/R (in), 4 SA (in), 5 SB (in), 6 SC (in), 7 OE (in), 8 RO (out), 9 CSNI (in), 10 Osc (in), 11 EANI (in), 12 EAII (in), 13 EAO/PWMI, 14 FaltO, 15 CSII (in), 16 GND (power), 17 Vdd (power), 18 Vd (power), 19 Cb (out), 20 Bb (out), 21 Ab (out), 22 60/120SCL (in), 23 Break (in), 24 CT (out)

## MC33035_1
designator U?
footprint SOP-24 (Footprint not found)
pins: 1 BT (out), 2 AT (out), 3 F/R (in), 4 SA (in), 5 SB (in), 6 SC (in), 7 OE (in), 8 RO (out), 9 CSNI (in), 10 Osc (in), 11 EANI (in), 12 EAII (in), 13 EAO/PWMI, 14 FaltO, 15 CSII (in), 16 GND (power), 17 Vdd (power), 18 Vd (power), 19 Cb (out), 20 Bb (out), 21 Ab (out), 22 60/120SCL (in), 23 Break (in), 24 CT (out)

## MC33035_2
designator U?
footprint SOP-24 (Footprint not found)
pins: 1 BT (out), 2 AT (out), 3 F/R (in), 4 SA (in), 5 SB (in), 6 SC (in), 7 OE (in), 8 RO (out), 9 CSNI (in), 10 Osc (in), 11 EANI (in), 12 EAII (in), 13 EAO/PWMI, 14 FaltO, 15 CSII (in), 16 GND (power), 17 Vdd (power), 18 Vd (power), 19 Cb (out), 20 Bb (out), 21 Ab (out), 22 60/120SCL (in), 23 Break (in), 24 CT (out)

## MC33039
designator U?
footprint SOP-8
pins: 1 C (in), 2 B (in), 3 A (in), 4 ~{A} (out), 5 f-out (out), 6 RT/CT (in), 7 GND (power), 8 VCC (power)

## MC33039_1
designator U?
footprint SOP-8
pins: 1 C (in), 2 B (in), 3 A (in), 4 ~{A} (out), 5 f-out (out), 6 RT/CT (in), 7 GND (power), 8 VCC (power)

## MC33039_2
designator U?
footprint SOP-8
pins: 1 C (in), 2 B (in), 3 A (in), 4 ~{A} (out), 5 f-out (out), 6 RT/CT (in), 7 GND (power), 8 VCC (power)

## MC34063
designator U?
footprint DIP8
footprint SOP-8
pins: 1, 2, 3, 4, 5, 6, 7, 8

## MCP3421
designator U?
footprint SOT-23-6
pins: 1 Vin+, 2 VSS, 3 SCL, 4 SDL, 5 VDD, 6 Vin-

## MCP41010
designator U?
footprint SOP-8
pins: 1 ~{CS}, 2 SCK, 3 SI, 4 VSS, 5 PA0, 6 PW0, 7 PB0, 8 VDD

## MIC2505
designator U?
footprint SOP-8
pins: 1 CTL, 2 FLG, 3 GND, 4 GATE, 5 IN, 6 OUT, 7 IN, 8 OUT

## MIC2505_1
designator U?, comment MIC2505
footprint SOP-8
pins: 1 CTL, 2 FLG, 3 GND, 4 GATE, 5 IN, 6 OUT, 7 IN, 8 OUT

## MN427V1
designator P?
footprint 1X4PIN-20
pins: 3, 4, 5, 6

## MOC8102
designator U?
part A pins: 14, 15
part B pins: 12, 13

## MOC8102_1
designator U?
part A pins: 3, 4
part B pins: 1, 2

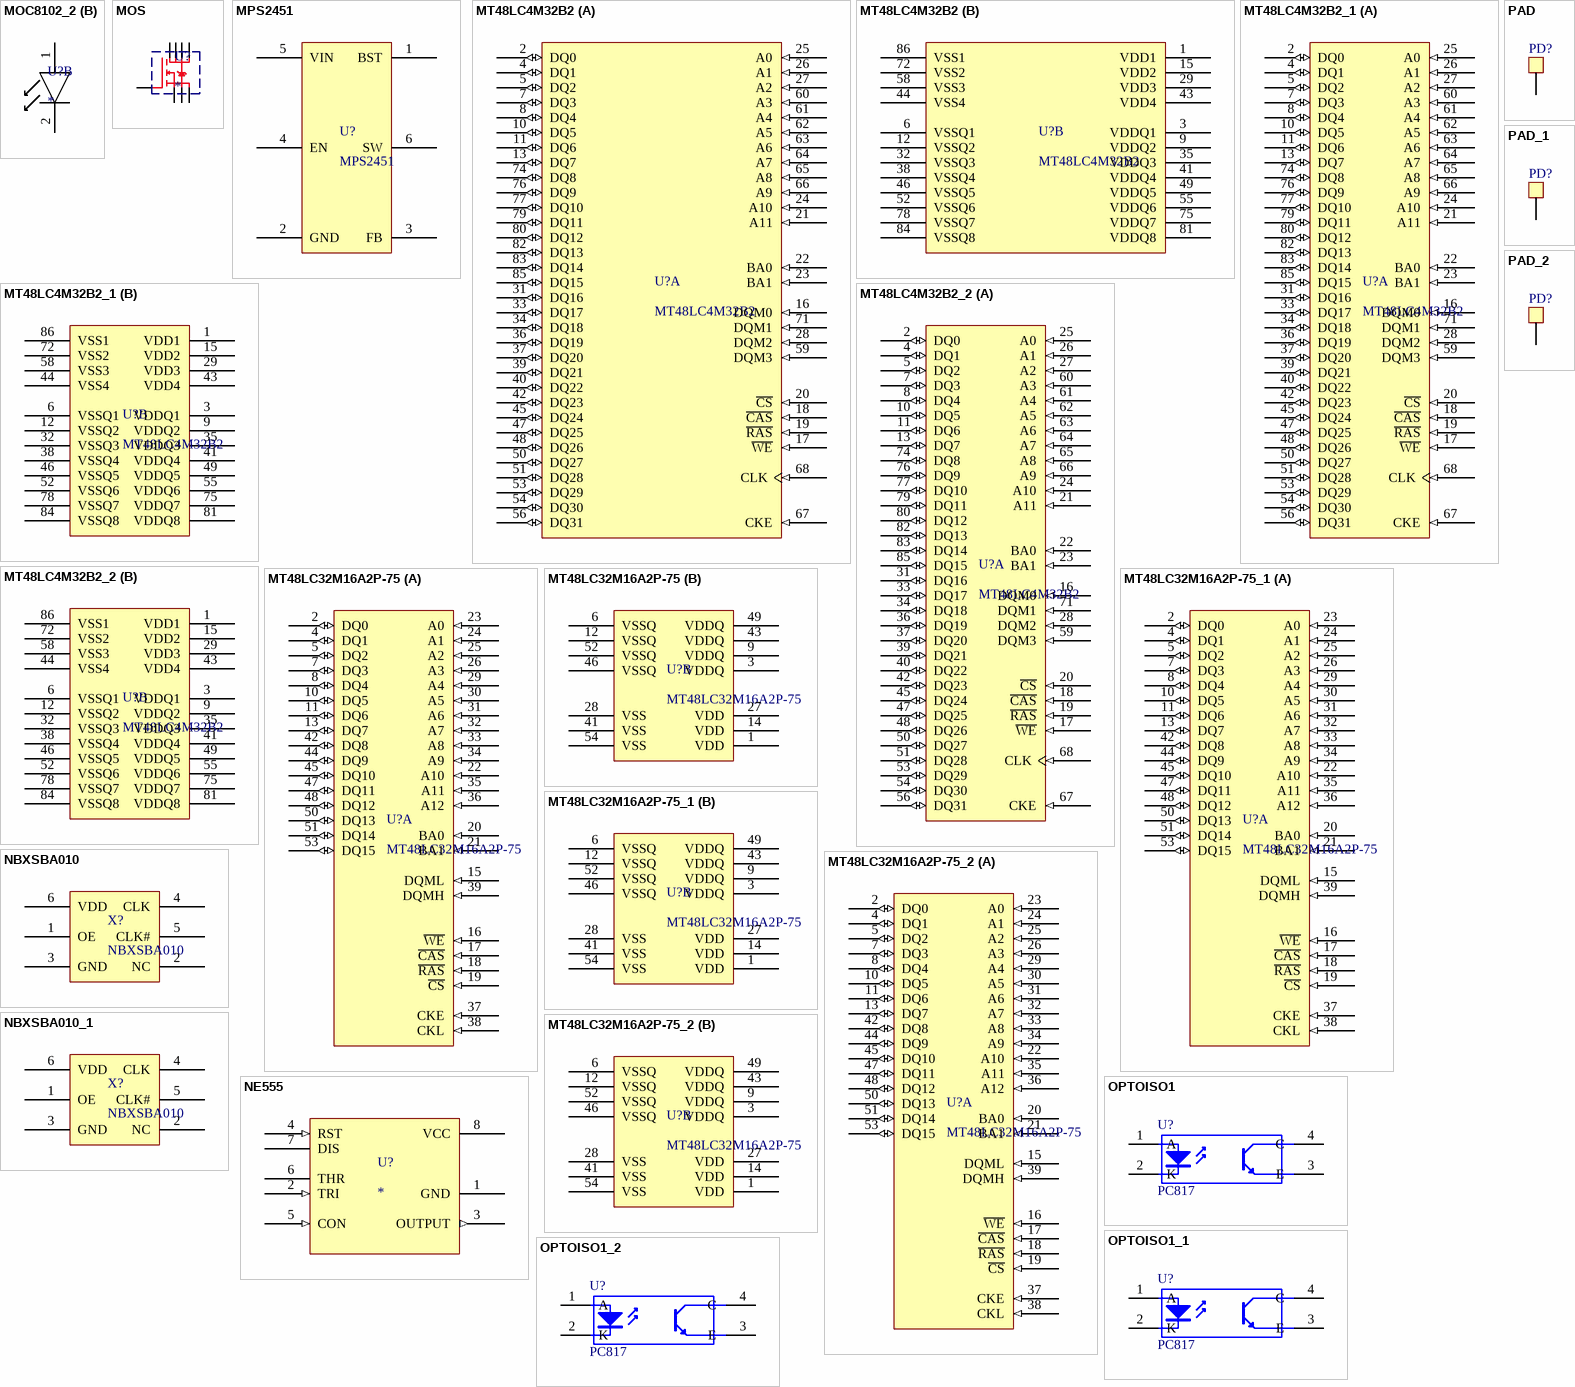
[diagram p11: symbols MOC8102_2 to PAD_2]

## MOC8102_2
designator U?
part A pins: 3, 4
part B pins: 1, 2

## MOS
designator U?
footprint SOP-8
pins: 1 S, 2 S, 3 S, 4 G, 5 D, 6 D, 7 D, 8 D

## MPS2451
designator U?
集成电路
footprint SOT-23-6
pins: 1 BST, 2 GND, 3 FB, 4 EN, 5 VIN, 6 SW

## MT48LC4M32B2
designator U?
footprint TSOP-86 (Footprint not found)
part A pins: 2 DQ0 (io), 4 DQ1 (io), 5 DQ2 (io), 7 DQ3 (io), 8 DQ4 (io), 10 DQ5 (io), 11 DQ6 (io), 13 DQ7 (io), 16 DQM0 (in), 17 ~{WE} (in), 18 ~{CAS} (in), 19 ~{RAS} (in), 20 ~{CS} (in), 21 A11 (in), 22 BA0 (in), 23 BA1 (in), 24 A10 (in), 25 A0 (in), 26 A1 (in), 27 A2 (in), 28 DQM2 (in), 31 DQ16 (io), 33 DQ17 (io), 34 DQ18 (io), 36 DQ19 (io), 37 DQ20 (io), 39 DQ21 (io), 40 DQ22 (io), 42 DQ23 (io), 45 DQ24 (io), 47 DQ25 (io), 48 DQ26 (io), 50 DQ27 (io), 51 DQ28 (io), 53 DQ29 (io), 54 DQ30 (io), 56 DQ31 (io), 59 DQM3 (in), 60 A3 (in), 61 A4 (in), 62 A5 (in), 63 A6 (in), 64 A7 (in), 65 A8 (in), 66 A9 (in), 67 CKE (in), 68 CLK (in), 71 DQM1 (in), 74 DQ8 (io), 76 DQ9 (io), 77 DQ10 (io), 79 DQ11 (io), 80 DQ12 (io), 82 DQ13 (io), 83 DQ14 (io), 85 DQ15 (io)
part B pins: 1 VDD1 (power), 3 VDDQ1 (power), 6 VSSQ1 (power), 9 VDDQ2 (power), 12 VSSQ2 (power), 15 VDD2 (power), 29 VDD3 (power), 32 VSSQ3 (power), 35 VDDQ3 (power), 38 VSSQ4 (power), 41 VDDQ4 (power), 43 VDD4 (power), 44 VSS4 (power), 46 VSSQ5 (power), 49 VDDQ5 (power), 52 VSSQ6 (power), 55 VDDQ6 (power), 58 VSS3 (power), 72 VSS2 (power), 75 VDDQ7 (power), 78 VSSQ7 (power), 81 VDDQ8 (power), 84 VSSQ8 (power), 86 VSS1 (power)

## MT48LC4M32B2_1
designator U?, comment MT48LC4M32B2
footprint TSOP-86 (Footprint not found)
part A pins: 2 DQ0 (io), 4 DQ1 (io), 5 DQ2 (io), 7 DQ3 (io), 8 DQ4 (io), 10 DQ5 (io), 11 DQ6 (io), 13 DQ7 (io), 16 DQM0 (in), 17 ~{WE} (in), 18 ~{CAS} (in), 19 ~{RAS} (in), 20 ~{CS} (in), 21 A11 (in), 22 BA0 (in), 23 BA1 (in), 24 A10 (in), 25 A0 (in), 26 A1 (in), 27 A2 (in), 28 DQM2 (in), 31 DQ16 (io), 33 DQ17 (io), 34 DQ18 (io), 36 DQ19 (io), 37 DQ20 (io), 39 DQ21 (io), 40 DQ22 (io), 42 DQ23 (io), 45 DQ24 (io), 47 DQ25 (io), 48 DQ26 (io), 50 DQ27 (io), 51 DQ28 (io), 53 DQ29 (io), 54 DQ30 (io), 56 DQ31 (io), 59 DQM3 (in), 60 A3 (in), 61 A4 (in), 62 A5 (in), 63 A6 (in), 64 A7 (in), 65 A8 (in), 66 A9 (in), 67 CKE (in), 68 CLK (in), 71 DQM1 (in), 74 DQ8 (io), 76 DQ9 (io), 77 DQ10 (io), 79 DQ11 (io), 80 DQ12 (io), 82 DQ13 (io), 83 DQ14 (io), 85 DQ15 (io)
part B pins: 1 VDD1 (power), 3 VDDQ1 (power), 6 VSSQ1 (power), 9 VDDQ2 (power), 12 VSSQ2 (power), 15 VDD2 (power), 29 VDD3 (power), 32 VSSQ3 (power), 35 VDDQ3 (power), 38 VSSQ4 (power), 41 VDDQ4 (power), 43 VDD4 (power), 44 VSS4 (power), 46 VSSQ5 (power), 49 VDDQ5 (power), 52 VSSQ6 (power), 55 VDDQ6 (power), 58 VSS3 (power), 72 VSS2 (power), 75 VDDQ7 (power), 78 VSSQ7 (power), 81 VDDQ8 (power), 84 VSSQ8 (power), 86 VSS1 (power)

## MT48LC4M32B2_2
designator U?, comment MT48LC4M32B2
footprint TSOP-86 (Footprint not found)
part A pins: 2 DQ0 (io), 4 DQ1 (io), 5 DQ2 (io), 7 DQ3 (io), 8 DQ4 (io), 10 DQ5 (io), 11 DQ6 (io), 13 DQ7 (io), 16 DQM0 (in), 17 ~{WE} (in), 18 ~{CAS} (in), 19 ~{RAS} (in), 20 ~{CS} (in), 21 A11 (in), 22 BA0 (in), 23 BA1 (in), 24 A10 (in), 25 A0 (in), 26 A1 (in), 27 A2 (in), 28 DQM2 (in), 31 DQ16 (io), 33 DQ17 (io), 34 DQ18 (io), 36 DQ19 (io), 37 DQ20 (io), 39 DQ21 (io), 40 DQ22 (io), 42 DQ23 (io), 45 DQ24 (io), 47 DQ25 (io), 48 DQ26 (io), 50 DQ27 (io), 51 DQ28 (io), 53 DQ29 (io), 54 DQ30 (io), 56 DQ31 (io), 59 DQM3 (in), 60 A3 (in), 61 A4 (in), 62 A5 (in), 63 A6 (in), 64 A7 (in), 65 A8 (in), 66 A9 (in), 67 CKE (in), 68 CLK (in), 71 DQM1 (in), 74 DQ8 (io), 76 DQ9 (io), 77 DQ10 (io), 79 DQ11 (io), 80 DQ12 (io), 82 DQ13 (io), 83 DQ14 (io), 85 DQ15 (io)
part B pins: 1 VDD1 (power), 3 VDDQ1 (power), 6 VSSQ1 (power), 9 VDDQ2 (power), 12 VSSQ2 (power), 15 VDD2 (power), 29 VDD3 (power), 32 VSSQ3 (power), 35 VDDQ3 (power), 38 VSSQ4 (power), 41 VDDQ4 (power), 43 VDD4 (power), 44 VSS4 (power), 46 VSSQ5 (power), 49 VDDQ5 (power), 52 VSSQ6 (power), 55 VDDQ6 (power), 58 VSS3 (power), 72 VSS2 (power), 75 VDDQ7 (power), 78 VSSQ7 (power), 81 VDDQ8 (power), 84 VSSQ8 (power), 86 VSS1 (power)

## MT48LC32M16A2P-75
designator U?
footprint TSOP54 (Footprint not found)
part A pins: 2 DQ0 (io), 4 DQ1 (io), 5 DQ2 (io), 7 DQ3 (io), 8 DQ4 (io), 10 DQ5 (io), 11 DQ6 (io), 13 DQ7 (io), 15 DQML (in), 16 ~{WE} (in), 17 ~{CAS} (in), 18 ~{RAS} (in), 19 ~{CS} (in), 20 BA0 (in), 21 BA1 (in), 22 A10 (in), 23 A0 (in), 24 A1 (in), 25 A2 (in), 26 A3 (in), 29 A4 (in), 30 A5 (in), 31 A6 (in), 32 A7 (in), 33 A8 (in), 34 A9 (in), 35 A11 (in), 36 A12 (in), 37 CKE (in), 38 CKL (in), 39 DQMH (in), 42 DQ8 (io), 44 DQ9 (io), 45 DQ10 (io), 47 DQ11 (io), 48 DQ12 (io), 50 DQ13 (io), 51 DQ14 (io), 53 DQ15 (io)
part B pins: 1 VDD (power), 3 VDDQ (power), 6 VSSQ (power), 9 VDDQ (power), 12 VSSQ (power), 14 VDD (power), 27 VDD (power), 28 VSS (power), 41 VSS (power), 43 VDDQ (power), 46 VSSQ (power), 49 VDDQ (power), 52 VSSQ (power), 54 VSS (power)

## MT48LC32M16A2P-75_1
designator U?, comment MT48LC32M16A2P-75
footprint TSOP54 (Footprint not found)
part A pins: 2 DQ0 (io), 4 DQ1 (io), 5 DQ2 (io), 7 DQ3 (io), 8 DQ4 (io), 10 DQ5 (io), 11 DQ6 (io), 13 DQ7 (io), 15 DQML (in), 16 ~{WE} (in), 17 ~{CAS} (in), 18 ~{RAS} (in), 19 ~{CS} (in), 20 BA0 (in), 21 BA1 (in), 22 A10 (in), 23 A0 (in), 24 A1 (in), 25 A2 (in), 26 A3 (in), 29 A4 (in), 30 A5 (in), 31 A6 (in), 32 A7 (in), 33 A8 (in), 34 A9 (in), 35 A11 (in), 36 A12 (in), 37 CKE (in), 38 CKL (in), 39 DQMH (in), 42 DQ8 (io), 44 DQ9 (io), 45 DQ10 (io), 47 DQ11 (io), 48 DQ12 (io), 50 DQ13 (io), 51 DQ14 (io), 53 DQ15 (io)
part B pins: 1 VDD (power), 3 VDDQ (power), 6 VSSQ (power), 9 VDDQ (power), 12 VSSQ (power), 14 VDD (power), 27 VDD (power), 28 VSS (power), 41 VSS (power), 43 VDDQ (power), 46 VSSQ (power), 49 VDDQ (power), 52 VSSQ (power), 54 VSS (power)